# Altium integrated library Actel SX-A.IntLib: 434 symbols (part 23 of 34)
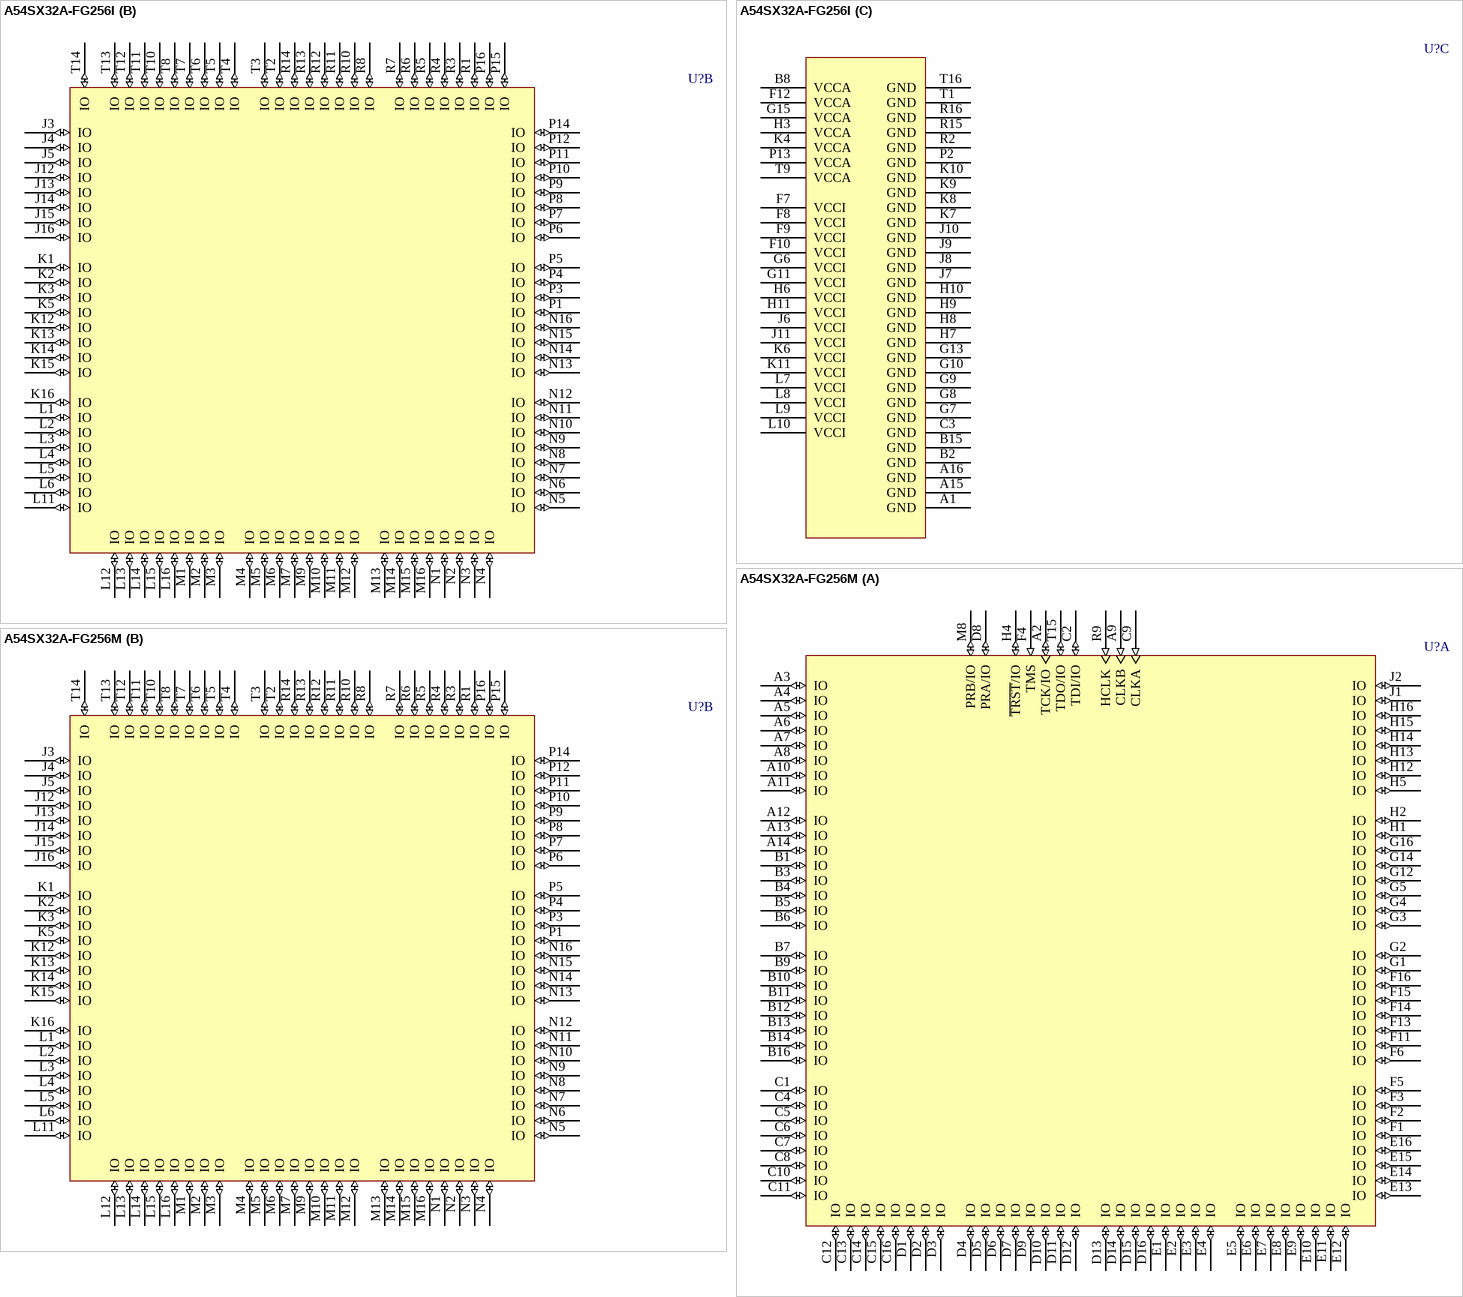
[diagram p343: symbols A54SX32A-FG256I to A54SX32A-FG256M]

## A54SX32A-FG256I
designator U?
A54SX32A FPGA, 203 User IOs, 256-Pin FBGA, Standard Speed Grade, Industrial Grade; DatasheetVersion: v5.3, Feb-2007; PackageVersion: rev39, Aug-2010; PackageReference: FBGA256; PackageDescription: 256-Ball Fine Pitch Plastic Ball Grid Array 1.00 mm Pitch (FG256); Code_JEDEC: MS-034-AAF-1; ComponentLink1Description: Manufacturer URL; ComponentLink1URL: http://www.actel.com/; ComponentLink2Description: SX-A Datasheet; ComponentLink2URL: http://www.actel.com/documents/SXA_DS.pdf; ComponentLink3Description: Package Mechanical Drawings; ComponentLink3URL: http://www.actel.com/documents/PckgMechDrwngs.pdf; ComponentLink4Description: SX-A Documents; ComponentLink4URL: http://www.actel.com/products/proasicplus/docs.aspx
footprint FBGA256 (BGA, 256-Leads, Body 17x17mm, Pitch 1mm)
part A pins: A2 TCK/IO (io), A3 IO (io), A4 IO (io), A5 IO (io), A6 IO (io), A7 IO (io), A8 IO (io), A9 CLKB (in), A10 IO (io), A11 IO (io), A12 IO (io), A13 IO (io), A14 IO (io), B1 IO (io), B3 IO (io), B4 IO (io), B5 IO (io), B6 IO (io), B7 IO (io), B9 IO (io), B10 IO (io), B11 IO (io), B12 IO (io), B13 IO (io), B14 IO (io), B16 IO (io), C1 IO (io), C2 TDI/IO (io), C4 IO (io), C5 IO (io), C6 IO (io), C7 IO (io), C8 IO (io), C9 CLKA (in), C10 IO (io), C11 IO (io), C12 IO (io), C13 IO (io), C14 IO (io), C15 IO (io), C16 IO (io), D1 IO (io), D2 IO (io), D3 IO (io), D4 IO (io), D5 IO (io), D6 IO (io), D7 IO (io), D8 PRA/IO (io), D9 IO (io), D10 IO (io), D11 IO (io), D12 IO (io), D13 IO (io), D14 IO (io), D15 IO (io), D16 IO (io), E1 IO (io), E2 IO (io), E3 IO (io), E4 IO (io), E5 IO (io), E6 IO (io), E7 IO (io), E8 IO (io), E9 IO (io), E10 IO (io), E11 IO (io), E12 IO (io), E13 IO (io), E14 IO (io), E15 IO (io), E16 IO (io), F1 IO (io), F2 IO (io), F3 IO (io), F4 TMS (in), F5 IO (io), F6 IO (io), F11 IO (io), F13 IO (io), F14 IO (io), F15 IO (io), F16 IO (io), G1 IO (io), G2 IO (io), G3 IO (io), G4 IO (io), G5 IO (io), G12 IO (io), G14 IO (io), G16 IO (io), H1 IO (io), H2 IO (io), H4 ~{TRST}/IO (io), H5 IO (io), H12 IO (io), H13 IO (io), H14 IO (io), H15 IO (io), H16 IO (io), J1 IO (io), J2 IO (io), M8 PRB/IO (io), R9 HCLK (in), T15 TDO/IO (io)
part B pins: J3 IO (io), J4 IO (io), J5 IO (io), J12 IO (io), J13 IO (io), J14 IO (io), J15 IO (io), J16 IO (io), K1 IO (io), K2 IO (io), K3 IO (io), K5 IO (io), K12 IO (io), K13 IO (io), K14 IO (io), K15 IO (io), K16 IO (io), L1 IO (io), L2 IO (io), L3 IO (io), L4 IO (io), L5 IO (io), L6 IO (io), L11 IO (io), L12 IO (io), L13 IO (io), L14 IO (io), L15 IO (io), L16 IO (io), M1 IO (io), M2 IO (io), M3 IO (io), M4 IO (io), M5 IO (io), M6 IO (io), M7 IO (io), M9 IO (io), M10 IO (io), M11 IO (io), M12 IO (io), M13 IO (io), M14 IO (io), M15 IO (io), M16 IO (io), N1 IO (io), N2 IO (io), N3 IO (io), N4 IO (io), N5 IO (io), N6 IO (io), N7 IO (io), N8 IO (io), N9 IO (io), N10 IO (io), N11 IO (io), N12 IO (io), N13 IO (io), N14 IO (io), N15 IO (io), N16 IO (io), P1 IO (io), P3 IO (io), P4 IO (io), P5 IO (io), P6 IO (io), P7 IO (io), P8 IO (io), P9 IO (io), P10 IO (io), P11 IO (io), P12 IO (io), P14 IO (io), P15 IO (io), P16 IO (io), R1 IO (io), R3 IO (io), R4 IO (io), R5 IO (io), R6 IO (io), R7 IO (io), R8 IO (io), R10 IO (io), R11 IO (io), R12 IO (io), R13 IO (io), R14 IO (io), T2 IO (io), T3 IO (io), T4 IO (io), T5 IO (io), T6 IO (io), T7 IO (io), T8 IO (io), T10 IO (io), T11 IO (io), T12 IO (io), T13 IO (io), T14 IO (io)
part C pins: A1 GND (power), A15 GND (power), A16 GND (power), B2 GND (power), B8 VCCA (power), B15 GND (power), C3 GND (power), F7 VCCI (power), F8 VCCI (power), F9 VCCI (power), F10 VCCI (power), F12 VCCA (power), G6 VCCI (power), G7 GND (power), G8 GND (power), G9 GND (power), G10 GND (power), G11 VCCI (power), G13 GND (power), G15 VCCA (power), H3 VCCA (power), H6 VCCI (power), H7 GND (power), H8 GND (power), H9 GND (power), H10 GND (power), H11 VCCI (power), J6 VCCI (power), J7 GND (power), J8 GND (power), J9 GND (power), J10 GND (power), J11 VCCI (power), K4 VCCA (power), K6 VCCI (power), K7 GND (power), K8 GND (power), K9 GND (power), K10 GND (power), K11 VCCI (power), L7 VCCI (power), L8 VCCI (power), L9 VCCI (power), L10 VCCI (power), P2 GND (power), P13 VCCA (power), R2 GND (power), R15 GND (power), R16 GND (power), T1 GND (power), T9 VCCA (power), T16 GND (power)

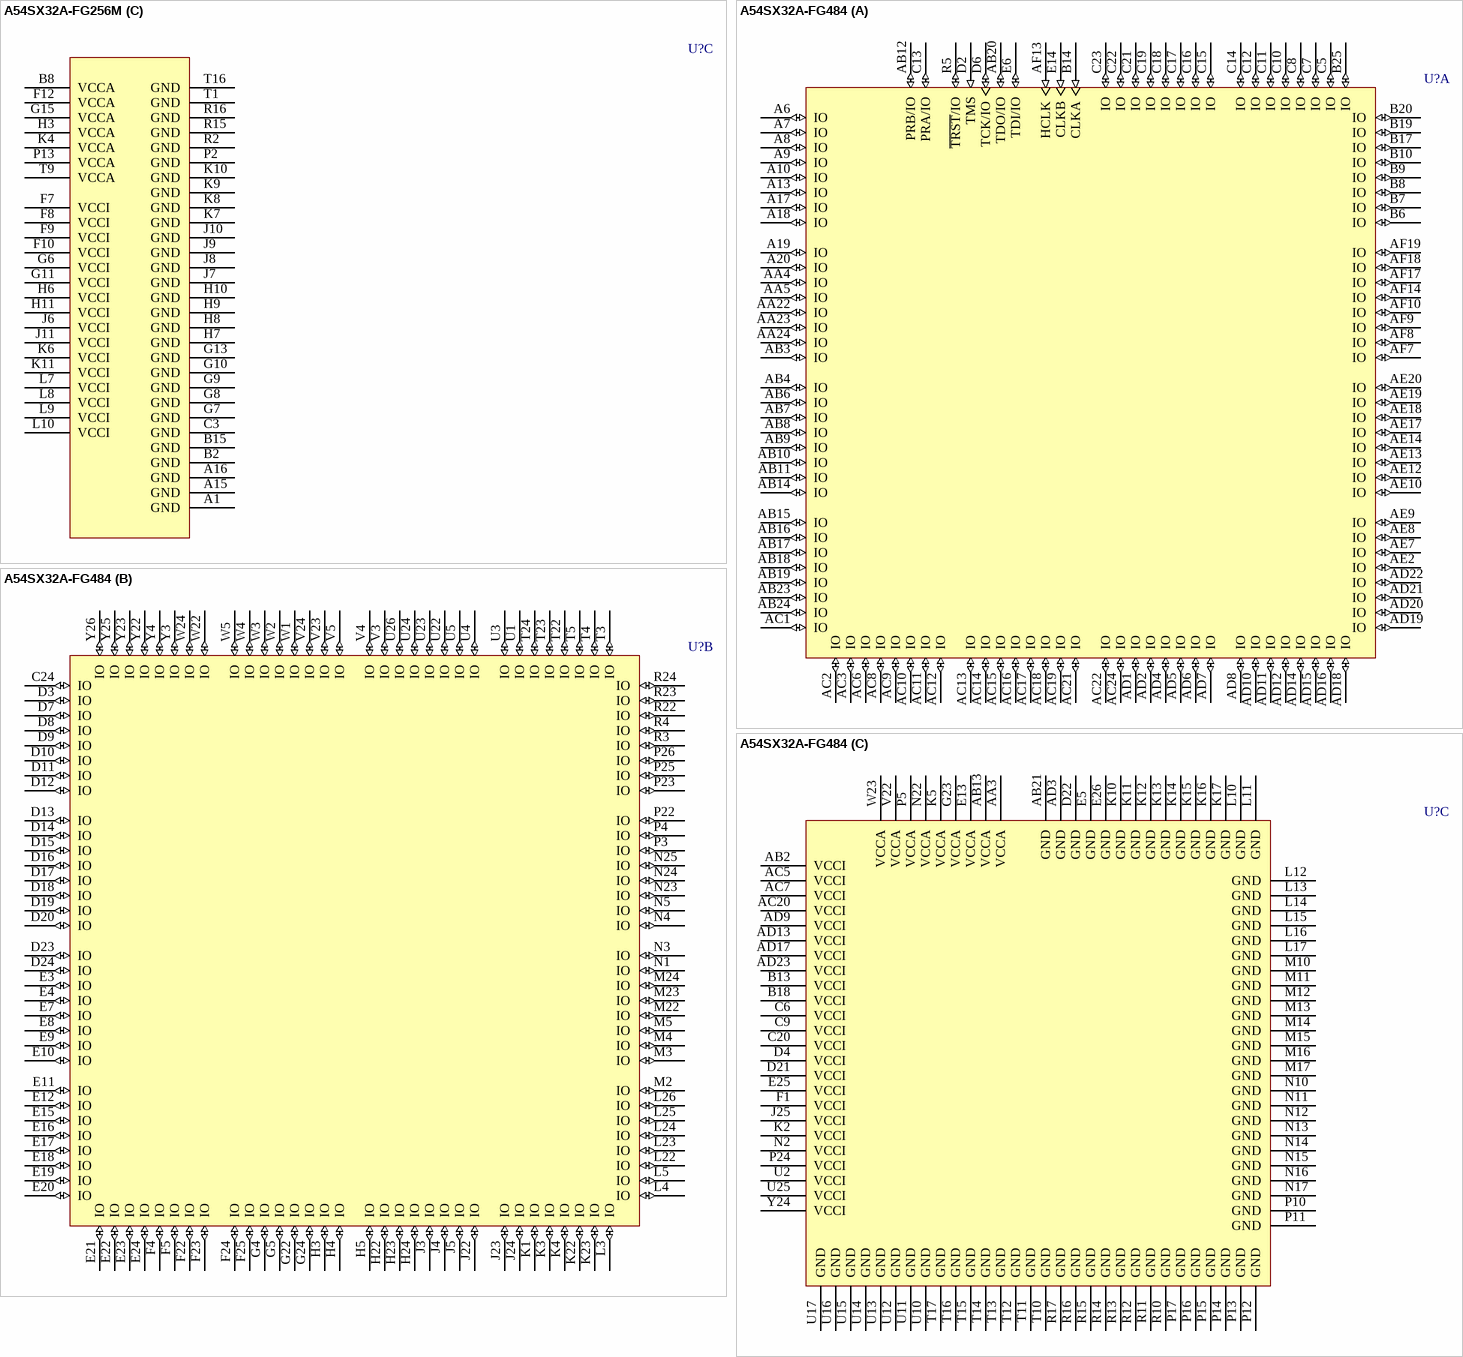
[diagram p215: symbols A54SX32A-FG256M to A54SX32A-FG484]

## A54SX32A-FG256M
designator U?
A54SX32A FPGA, 203 User IOs, 256-Pin FBGA, Standard Speed Grade, Military Grade; DatasheetVersion: v5.3, Feb-2007; PackageVersion: rev39, Aug-2010; PackageReference: FBGA256; PackageDescription: 256-Ball Fine Pitch Plastic Ball Grid Array 1.00 mm Pitch (FG256); Code_JEDEC: MS-034-AAF-1; ComponentLink1Description: Manufacturer URL; ComponentLink1URL: http://www.actel.com/; ComponentLink2Description: SX-A Datasheet; ComponentLink2URL: http://www.actel.com/documents/SXA_DS.pdf; ComponentLink3Description: Package Mechanical Drawings; ComponentLink3URL: http://www.actel.com/documents/PckgMechDrwngs.pdf; ComponentLink4Description: SX-A Documents; ComponentLink4URL: http://www.actel.com/products/proasicplus/docs.aspx
footprint FBGA256 (BGA, 256-Leads, Body 17x17mm, Pitch 1mm)
part A pins: A2 TCK/IO (io), A3 IO (io), A4 IO (io), A5 IO (io), A6 IO (io), A7 IO (io), A8 IO (io), A9 CLKB (in), A10 IO (io), A11 IO (io), A12 IO (io), A13 IO (io), A14 IO (io), B1 IO (io), B3 IO (io), B4 IO (io), B5 IO (io), B6 IO (io), B7 IO (io), B9 IO (io), B10 IO (io), B11 IO (io), B12 IO (io), B13 IO (io), B14 IO (io), B16 IO (io), C1 IO (io), C2 TDI/IO (io), C4 IO (io), C5 IO (io), C6 IO (io), C7 IO (io), C8 IO (io), C9 CLKA (in), C10 IO (io), C11 IO (io), C12 IO (io), C13 IO (io), C14 IO (io), C15 IO (io), C16 IO (io), D1 IO (io), D2 IO (io), D3 IO (io), D4 IO (io), D5 IO (io), D6 IO (io), D7 IO (io), D8 PRA/IO (io), D9 IO (io), D10 IO (io), D11 IO (io), D12 IO (io), D13 IO (io), D14 IO (io), D15 IO (io), D16 IO (io), E1 IO (io), E2 IO (io), E3 IO (io), E4 IO (io), E5 IO (io), E6 IO (io), E7 IO (io), E8 IO (io), E9 IO (io), E10 IO (io), E11 IO (io), E12 IO (io), E13 IO (io), E14 IO (io), E15 IO (io), E16 IO (io), F1 IO (io), F2 IO (io), F3 IO (io), F4 TMS (in), F5 IO (io), F6 IO (io), F11 IO (io), F13 IO (io), F14 IO (io), F15 IO (io), F16 IO (io), G1 IO (io), G2 IO (io), G3 IO (io), G4 IO (io), G5 IO (io), G12 IO (io), G14 IO (io), G16 IO (io), H1 IO (io), H2 IO (io), H4 ~{TRST}/IO (io), H5 IO (io), H12 IO (io), H13 IO (io), H14 IO (io), H15 IO (io), H16 IO (io), J1 IO (io), J2 IO (io), M8 PRB/IO (io), R9 HCLK (in), T15 TDO/IO (io)
part B pins: J3 IO (io), J4 IO (io), J5 IO (io), J12 IO (io), J13 IO (io), J14 IO (io), J15 IO (io), J16 IO (io), K1 IO (io), K2 IO (io), K3 IO (io), K5 IO (io), K12 IO (io), K13 IO (io), K14 IO (io), K15 IO (io), K16 IO (io), L1 IO (io), L2 IO (io), L3 IO (io), L4 IO (io), L5 IO (io), L6 IO (io), L11 IO (io), L12 IO (io), L13 IO (io), L14 IO (io), L15 IO (io), L16 IO (io), M1 IO (io), M2 IO (io), M3 IO (io), M4 IO (io), M5 IO (io), M6 IO (io), M7 IO (io), M9 IO (io), M10 IO (io), M11 IO (io), M12 IO (io), M13 IO (io), M14 IO (io), M15 IO (io), M16 IO (io), N1 IO (io), N2 IO (io), N3 IO (io), N4 IO (io), N5 IO (io), N6 IO (io), N7 IO (io), N8 IO (io), N9 IO (io), N10 IO (io), N11 IO (io), N12 IO (io), N13 IO (io), N14 IO (io), N15 IO (io), N16 IO (io), P1 IO (io), P3 IO (io), P4 IO (io), P5 IO (io), P6 IO (io), P7 IO (io), P8 IO (io), P9 IO (io), P10 IO (io), P11 IO (io), P12 IO (io), P14 IO (io), P15 IO (io), P16 IO (io), R1 IO (io), R3 IO (io), R4 IO (io), R5 IO (io), R6 IO (io), R7 IO (io), R8 IO (io), R10 IO (io), R11 IO (io), R12 IO (io), R13 IO (io), R14 IO (io), T2 IO (io), T3 IO (io), T4 IO (io), T5 IO (io), T6 IO (io), T7 IO (io), T8 IO (io), T10 IO (io), T11 IO (io), T12 IO (io), T13 IO (io), T14 IO (io)
part C pins: A1 GND (power), A15 GND (power), A16 GND (power), B2 GND (power), B8 VCCA (power), B15 GND (power), C3 GND (power), F7 VCCI (power), F8 VCCI (power), F9 VCCI (power), F10 VCCI (power), F12 VCCA (power), G6 VCCI (power), G7 GND (power), G8 GND (power), G9 GND (power), G10 GND (power), G11 VCCI (power), G13 GND (power), G15 VCCA (power), H3 VCCA (power), H6 VCCI (power), H7 GND (power), H8 GND (power), H9 GND (power), H10 GND (power), H11 VCCI (power), J6 VCCI (power), J7 GND (power), J8 GND (power), J9 GND (power), J10 GND (power), J11 VCCI (power), K4 VCCA (power), K6 VCCI (power), K7 GND (power), K8 GND (power), K9 GND (power), K10 GND (power), K11 VCCI (power), L7 VCCI (power), L8 VCCI (power), L9 VCCI (power), L10 VCCI (power), P2 GND (power), P13 VCCA (power), R2 GND (power), R15 GND (power), R16 GND (power), T1 GND (power), T9 VCCA (power), T16 GND (power)

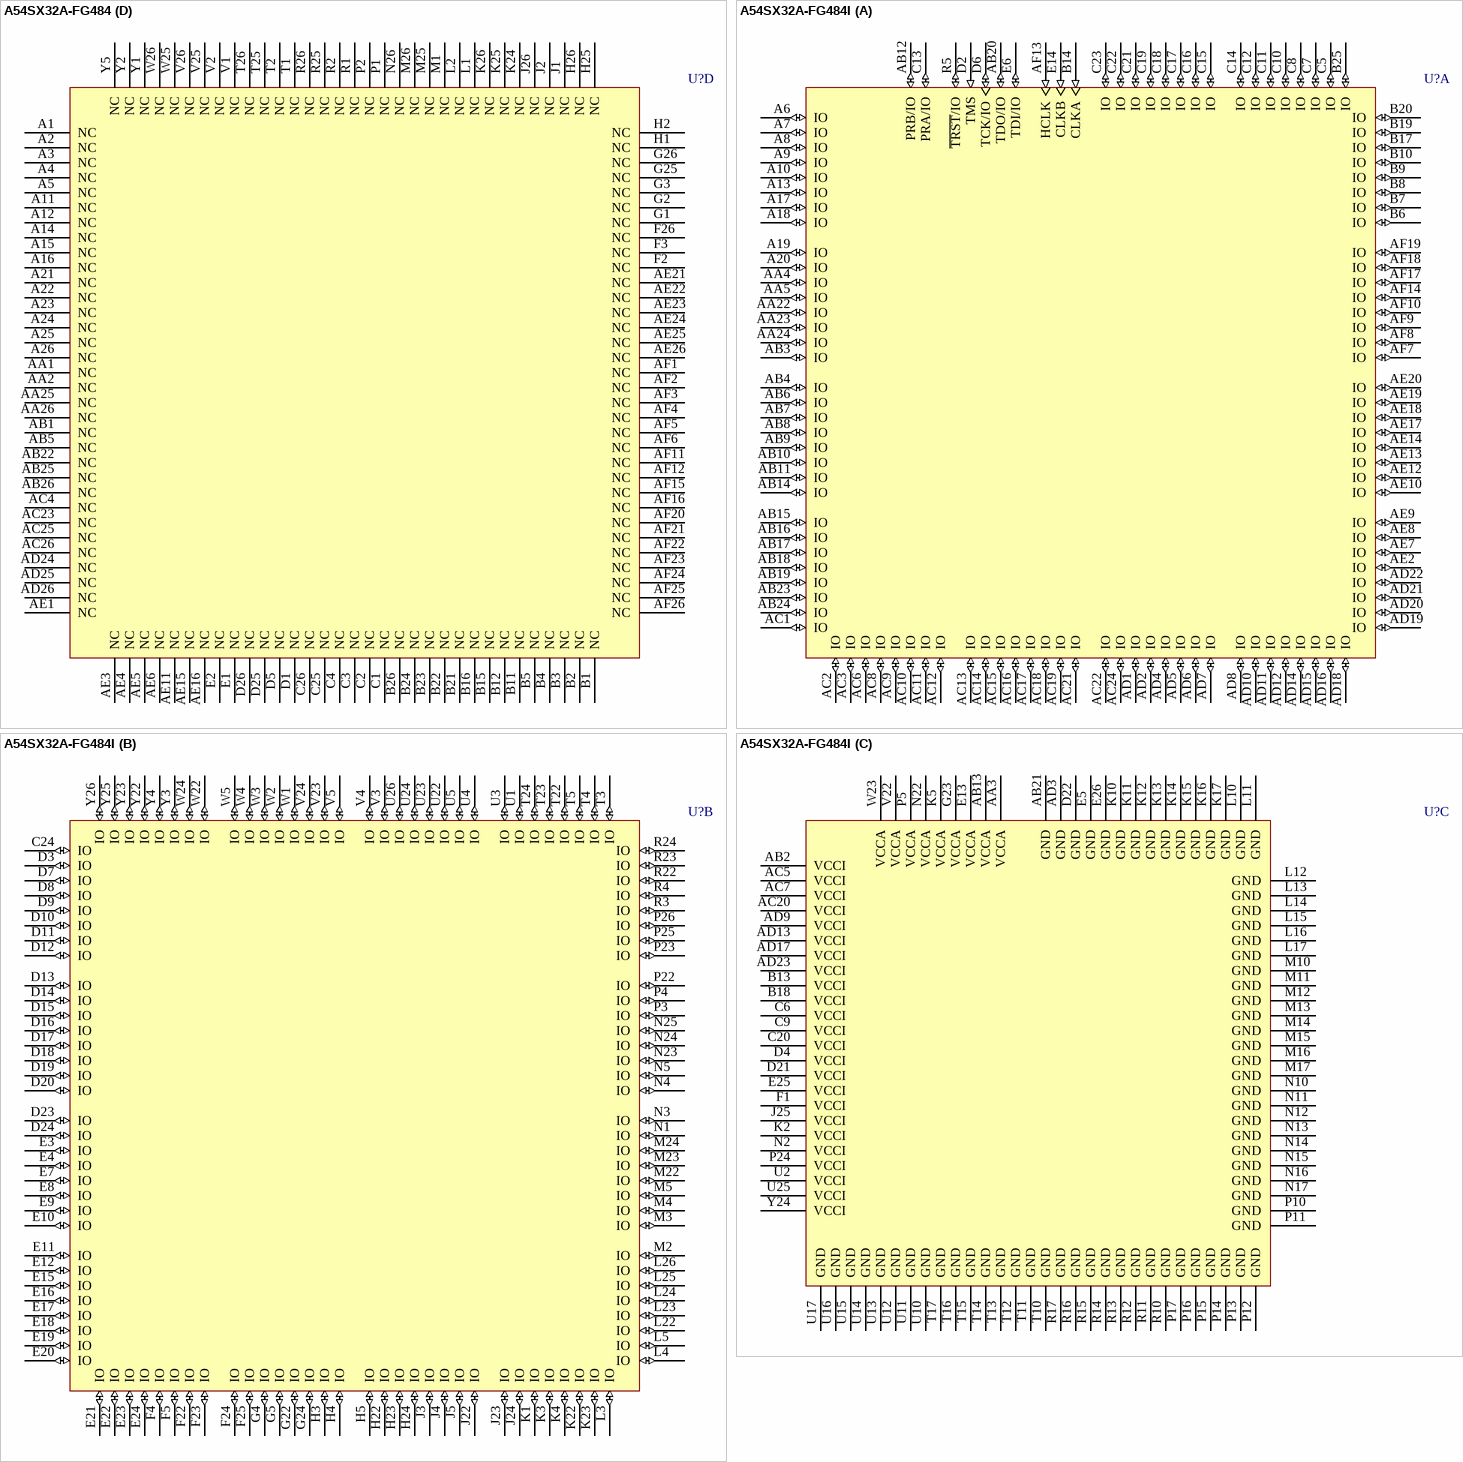
[diagram p216: symbols A54SX32A-FG484 to A54SX32A-FG484I]

## A54SX32A-FG484
designator U?
A54SX32A FPGA, 249 User IOs, 484-Pin FBGA, Standard Speed Grade, Commercial Grade; DatasheetVersion: v5.3, Feb-2007; PackageVersion: rev39, Aug-2010; PackageReference: FG484TE; PackageDescription: 484-Ball Fine Pitch Plastic Ball Grid Array (FG484) - Thermally Enhanced; Code_JEDEC: MS-034-AAL-1; ComponentLink1Description: Manufacturer URL; ComponentLink1URL: http://www.actel.com/; ComponentLink2Description: SX-A Datasheet; ComponentLink2URL: http://www.actel.com/documents/SXA_DS.pdf; ComponentLink3Description: Package Mechanical Drawings; ComponentLink3URL: http://www.actel.com/documents/PckgMechDrwngs.pdf; ComponentLink4Description: SX-A Documents; ComponentLink4URL: http://www.actel.com/products/proasicplus/docs.aspx
footprint FG484TE (BGA, 484-Leads, Body 27x27mm, Pitch 1mm)
part A pins: A6 IO (io), A7 IO (io), A8 IO (io), A9 IO (io), A10 IO (io), A13 IO (io), A17 IO (io), A18 IO (io), A19 IO (io), A20 IO (io), AA4 IO (io), AA5 IO (io), AA22 IO (io), AA23 IO (io), AA24 IO (io), AB3 IO (io), AB4 IO (io), AB6 IO (io), AB7 IO (io), AB8 IO (io), AB9 IO (io), AB10 IO (io), AB11 IO (io), AB12 PRB/IO (io), AB14 IO (io), AB15 IO (io), AB16 IO (io), AB17 IO (io), AB18 IO (io), AB19 IO (io), AB20 TDO/IO (io), AB23 IO (io), AB24 IO (io), AC1 IO (io), AC2 IO (io), AC3 IO (io), AC6 IO (io), AC8 IO (io), AC9 IO (io), AC10 IO (io), AC11 IO (io), AC12 IO (io), AC13 IO (io), AC14 IO (io), AC15 IO (io), AC16 IO (io), AC17 IO (io), AC18 IO (io), AC19 IO (io), AC21 IO (io), AC22 IO (io), AC24 IO (io), AD1 IO (io), AD2 IO (io), AD4 IO (io), AD5 IO (io), AD6 IO (io), AD7 IO (io), AD8 IO (io), AD10 IO (io), AD11 IO (io), AD12 IO (io), AD14 IO (io), AD15 IO (io), AD16 IO (io), AD18 IO (io), AD19 IO (io), AD20 IO (io), AD21 IO (io), AD22 IO (io), AE2 IO (io), AE7 IO (io), AE8 IO (io), AE9 IO (io), AE10 IO (io), AE12 IO (io), AE13 IO (io), AE14 IO (io), AE17 IO (io), AE18 IO (io), AE19 IO (io), AE20 IO (io), AF7 IO (io), AF8 IO (io), AF9 IO (io), AF10 IO (io), AF13 HCLK (in), AF14 IO (io), AF17 IO (io), AF18 IO (io), AF19 IO (io), B6 IO (io), B7 IO (io), B8 IO (io), B9 IO (io), B10 IO (io), B14 CLKA (in), B17 IO (io), B19 IO (io), B20 IO (io), B25 IO (io), C5 IO (io), C7 IO (io), C8 IO (io), C10 IO (io), C11 IO (io), C12 IO (io), C13 PRA/IO (io), C14 IO (io), C15 IO (io), C16 IO (io), C17 IO (io), C18 IO (io), C19 IO (io), C21 IO (io), C22 IO (io), C23 IO (io), D2 TMS (in), D6 TCK/IO (io), E6 TDI/IO (io), E14 CLKB (in), R5 ~{TRST}/IO (io)
part B pins: C24 IO (io), D3 IO (io), D7 IO (io), D8 IO (io), D9 IO (io), D10 IO (io), D11 IO (io), D12 IO (io), D13 IO (io), D14 IO (io), D15 IO (io), D16 IO (io), D17 IO (io), D18 IO (io), D19 IO (io), D20 IO (io), D23 IO (io), D24 IO (io), E3 IO (io), E4 IO (io), E7 IO (io), E8 IO (io), E9 IO (io), E10 IO (io), E11 IO (io), E12 IO (io), E15 IO (io), E16 IO (io), E17 IO (io), E18 IO (io), E19 IO (io), E20 IO (io), E21 IO (io), E22 IO (io), E23 IO (io), E24 IO (io), F4 IO (io), F5 IO (io), F22 IO (io), F23 IO (io), F24 IO (io), F25 IO (io), G4 IO (io), G5 IO (io), G22 IO (io), G24 IO (io), H3 IO (io), H4 IO (io), H5 IO (io), H22 IO (io), H23 IO (io), H24 IO (io), J3 IO (io), J4 IO (io), J5 IO (io), J22 IO (io), J23 IO (io), J24 IO (io), K1 IO (io), K3 IO (io), K4 IO (io), K22 IO (io), K23 IO (io), L3 IO (io), L4 IO (io), L5 IO (io), L22 IO (io), L23 IO (io), L24 IO (io), L25 IO (io), L26 IO (io), M2 IO (io), M3 IO (io), M4 IO (io), M5 IO (io), M22 IO (io), M23 IO (io), M24 IO (io), N1 IO (io), N3 IO (io), N4 IO (io), N5 IO (io), N23 IO (io), N24 IO (io), N25 IO (io), P3 IO (io), P4 IO (io), P22 IO (io), P23 IO (io), P25 IO (io), P26 IO (io), R3 IO (io), R4 IO (io), R22 IO (io), R23 IO (io), R24 IO (io), T3 IO (io), T4 IO (io), T5 IO (io), T22 IO (io), T23 IO (io), T24 IO (io), U1 IO (io), U3 IO (io), U4 IO (io), U5 IO (io), U22 IO (io), U23 IO (io), U24 IO (io), U26 IO (io), V3 IO (io), V4 IO (io), V5 IO (io), V23 IO (io), V24 IO (io), W1 IO (io), W2 IO (io), W3 IO (io), W4 IO (io), W5 IO (io), W22 IO (io), W24 IO (io), Y3 IO (io), Y4 IO (io), Y22 IO (io), Y23 IO (io), Y25 IO (io), Y26 IO (io)
part C pins: AA3 VCCA (power), AB2 VCCI (power), AB13 VCCA (power), AB21 GND (power), AC5 VCCI (power), AC7 VCCI (power), AC20 VCCI (power), AD3 GND (power), AD9 VCCI (power), AD13 VCCI (power), AD17 VCCI (power), AD23 VCCI (power), B13 VCCI (power), B18 VCCI (power), C6 VCCI (power), C9 VCCI (power), C20 VCCI (power), D4 VCCI (power), D21 VCCI (power), D22 GND (power), E5 GND (power), E13 VCCA (power), E25 VCCI (power), E26 GND (power), F1 VCCI (power), G23 VCCA (power), J25 VCCI (power), K2 VCCI (power), K5 VCCA (power), K10 GND (power), K11 GND (power), K12 GND (power), K13 GND (power), K14 GND (power), K15 GND (power), K16 GND (power), K17 GND (power), L10 GND (power), L11 GND (power), L12 GND (power), L13 GND (power), L14 GND (power), L15 GND (power), L16 GND (power), L17 GND (power), M10 GND (power), M11 GND (power), M12 GND (power), M13 GND (power), M14 GND (power), M15 GND (power), M16 GND (power), M17 GND (power), N2 VCCI (power), N10 GND (power), N11 GND (power), N12 GND (power), N13 GND (power), N14 GND (power), N15 GND (power), N16 GND (power), N17 GND (power), N22 VCCA (power), P5 VCCA (power), P10 GND (power), P11 GND (power), P12 GND (power), P13 GND (power), P14 GND (power), P15 GND (power), P16 GND (power), P17 GND (power), P24 VCCI (power), R10 GND (power), R11 GND (power), R12 GND (power), R13 GND (power), R14 GND (power), R15 GND (power), R16 GND (power), R17 GND (power), T10 GND (power), T11 GND (power), T12 GND (power), T13 GND (power), T14 GND (power), T15 GND (power), T16 GND (power), T17 GND (power), U2 VCCI (power), U10 GND (power), U11 GND (power), U12 GND (power), U13 GND (power), U14 GND (power), U15 GND (power), U16 GND (power), U17 GND (power), U25 VCCI (power), V22 VCCA (power), W23 VCCA (power), Y24 VCCI (power)
part D pins: A1 NC, A2 NC, A3 NC, A4 NC, A5 NC, A11 NC, A12 NC, A14 NC, A15 NC, A16 NC, A21 NC, A22 NC, A23 NC, A24 NC, A25 NC, A26 NC, AA1 NC, AA2 NC, AA25 NC, AA26 NC, AB1 NC, AB5 NC, AB22 NC, AB25 NC, AB26 NC, AC4 NC, AC23 NC, AC25 NC, AC26 NC, AD24 NC, AD25 NC, AD26 NC, AE1 NC, AE3 NC, AE4 NC, AE5 NC, AE6 NC, AE11 NC, AE15 NC, AE16 NC, AE21 NC, AE22 NC, AE23 NC, AE24 NC, AE25 NC, AE26 NC, AF1 NC, AF2 NC, AF3 NC, AF4 NC, AF5 NC, AF6 NC, AF11 NC, AF12 NC, AF15 NC, AF16 NC, AF20 NC, AF21 NC, AF22 NC, AF23 NC, AF24 NC, AF25 NC, AF26 NC, B1 NC, B2 NC, B3 NC, B4 NC, B5 NC, B11 NC, B12 NC, B15 NC, B16 NC, B21 NC, B22 NC, B23 NC, B24 NC, B26 NC, C1 NC, C2 NC, C3 NC, C4 NC, C25 NC, C26 NC, D1 NC, D5 NC, D25 NC, D26 NC, E1 NC, E2 NC, F2 NC, F3 NC, F26 NC, G1 NC, G2 NC, G3 NC, G25 NC, G26 NC, H1 NC, H2 NC, H25 NC, H26 NC, J1 NC, J2 NC, J26 NC, K24 NC, K25 NC, K26 NC, L1 NC, L2 NC, M1 NC, M25 NC, M26 NC, N26 NC, P1 NC, P2 NC, R1 NC, R2 NC, R25 NC, R26 NC, T1 NC, T2 NC, T25 NC, T26 NC, V1 NC, V2 NC, V25 NC, V26 NC, W25 NC, W26 NC, Y1 NC, Y2 NC, Y5 NC

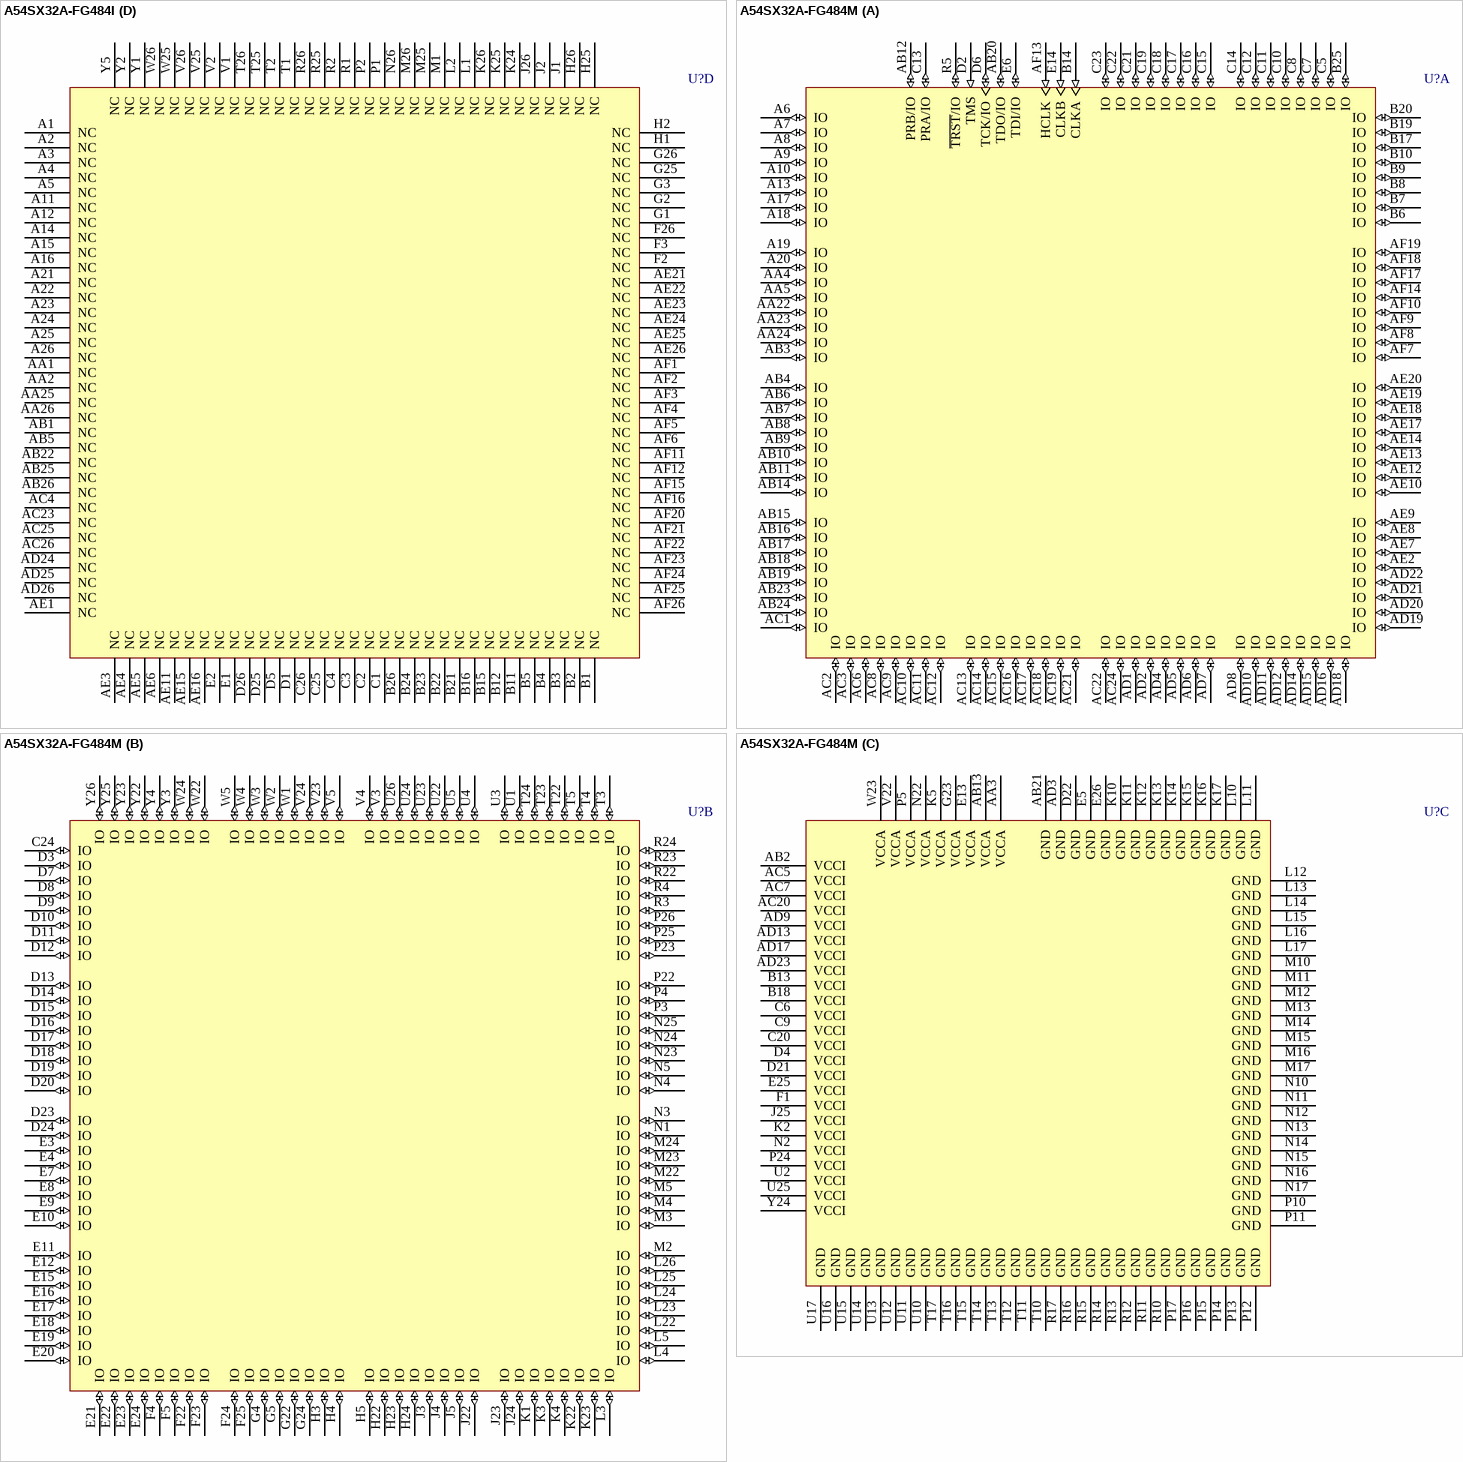
[diagram p217: symbols A54SX32A-FG484I to A54SX32A-FG484M]

## A54SX32A-FG484I
designator U?
A54SX32A FPGA, 249 User IOs, 484-Pin FBGA, Standard Speed Grade, Industrial Grade; DatasheetVersion: v5.3, Feb-2007; PackageVersion: rev39, Aug-2010; PackageReference: FG484TE; PackageDescription: 484-Ball Fine Pitch Plastic Ball Grid Array (FG484) - Thermally Enhanced; Code_JEDEC: MS-034-AAL-1; ComponentLink1Description: Manufacturer URL; ComponentLink1URL: http://www.actel.com/; ComponentLink2Description: SX-A Datasheet; ComponentLink2URL: http://www.actel.com/documents/SXA_DS.pdf; ComponentLink3Description: Package Mechanical Drawings; ComponentLink3URL: http://www.actel.com/documents/PckgMechDrwngs.pdf; ComponentLink4Description: SX-A Documents; ComponentLink4URL: http://www.actel.com/products/proasicplus/docs.aspx
footprint FG484TE (BGA, 484-Leads, Body 27x27mm, Pitch 1mm)
part A pins: A6 IO (io), A7 IO (io), A8 IO (io), A9 IO (io), A10 IO (io), A13 IO (io), A17 IO (io), A18 IO (io), A19 IO (io), A20 IO (io), AA4 IO (io), AA5 IO (io), AA22 IO (io), AA23 IO (io), AA24 IO (io), AB3 IO (io), AB4 IO (io), AB6 IO (io), AB7 IO (io), AB8 IO (io), AB9 IO (io), AB10 IO (io), AB11 IO (io), AB12 PRB/IO (io), AB14 IO (io), AB15 IO (io), AB16 IO (io), AB17 IO (io), AB18 IO (io), AB19 IO (io), AB20 TDO/IO (io), AB23 IO (io), AB24 IO (io), AC1 IO (io), AC2 IO (io), AC3 IO (io), AC6 IO (io), AC8 IO (io), AC9 IO (io), AC10 IO (io), AC11 IO (io), AC12 IO (io), AC13 IO (io), AC14 IO (io), AC15 IO (io), AC16 IO (io), AC17 IO (io), AC18 IO (io), AC19 IO (io), AC21 IO (io), AC22 IO (io), AC24 IO (io), AD1 IO (io), AD2 IO (io), AD4 IO (io), AD5 IO (io), AD6 IO (io), AD7 IO (io), AD8 IO (io), AD10 IO (io), AD11 IO (io), AD12 IO (io), AD14 IO (io), AD15 IO (io), AD16 IO (io), AD18 IO (io), AD19 IO (io), AD20 IO (io), AD21 IO (io), AD22 IO (io), AE2 IO (io), AE7 IO (io), AE8 IO (io), AE9 IO (io), AE10 IO (io), AE12 IO (io), AE13 IO (io), AE14 IO (io), AE17 IO (io), AE18 IO (io), AE19 IO (io), AE20 IO (io), AF7 IO (io), AF8 IO (io), AF9 IO (io), AF10 IO (io), AF13 HCLK (in), AF14 IO (io), AF17 IO (io), AF18 IO (io), AF19 IO (io), B6 IO (io), B7 IO (io), B8 IO (io), B9 IO (io), B10 IO (io), B14 CLKA (in), B17 IO (io), B19 IO (io), B20 IO (io), B25 IO (io), C5 IO (io), C7 IO (io), C8 IO (io), C10 IO (io), C11 IO (io), C12 IO (io), C13 PRA/IO (io), C14 IO (io), C15 IO (io), C16 IO (io), C17 IO (io), C18 IO (io), C19 IO (io), C21 IO (io), C22 IO (io), C23 IO (io), D2 TMS (in), D6 TCK/IO (io), E6 TDI/IO (io), E14 CLKB (in), R5 ~{TRST}/IO (io)
part B pins: C24 IO (io), D3 IO (io), D7 IO (io), D8 IO (io), D9 IO (io), D10 IO (io), D11 IO (io), D12 IO (io), D13 IO (io), D14 IO (io), D15 IO (io), D16 IO (io), D17 IO (io), D18 IO (io), D19 IO (io), D20 IO (io), D23 IO (io), D24 IO (io), E3 IO (io), E4 IO (io), E7 IO (io), E8 IO (io), E9 IO (io), E10 IO (io), E11 IO (io), E12 IO (io), E15 IO (io), E16 IO (io), E17 IO (io), E18 IO (io), E19 IO (io), E20 IO (io), E21 IO (io), E22 IO (io), E23 IO (io), E24 IO (io), F4 IO (io), F5 IO (io), F22 IO (io), F23 IO (io), F24 IO (io), F25 IO (io), G4 IO (io), G5 IO (io), G22 IO (io), G24 IO (io), H3 IO (io), H4 IO (io), H5 IO (io), H22 IO (io), H23 IO (io), H24 IO (io), J3 IO (io), J4 IO (io), J5 IO (io), J22 IO (io), J23 IO (io), J24 IO (io), K1 IO (io), K3 IO (io), K4 IO (io), K22 IO (io), K23 IO (io), L3 IO (io), L4 IO (io), L5 IO (io), L22 IO (io), L23 IO (io), L24 IO (io), L25 IO (io), L26 IO (io), M2 IO (io), M3 IO (io), M4 IO (io), M5 IO (io), M22 IO (io), M23 IO (io), M24 IO (io), N1 IO (io), N3 IO (io), N4 IO (io), N5 IO (io), N23 IO (io), N24 IO (io), N25 IO (io), P3 IO (io), P4 IO (io), P22 IO (io), P23 IO (io), P25 IO (io), P26 IO (io), R3 IO (io), R4 IO (io), R22 IO (io), R23 IO (io), R24 IO (io), T3 IO (io), T4 IO (io), T5 IO (io), T22 IO (io), T23 IO (io), T24 IO (io), U1 IO (io), U3 IO (io), U4 IO (io), U5 IO (io), U22 IO (io), U23 IO (io), U24 IO (io), U26 IO (io), V3 IO (io), V4 IO (io), V5 IO (io), V23 IO (io), V24 IO (io), W1 IO (io), W2 IO (io), W3 IO (io), W4 IO (io), W5 IO (io), W22 IO (io), W24 IO (io), Y3 IO (io), Y4 IO (io), Y22 IO (io), Y23 IO (io), Y25 IO (io), Y26 IO (io)
part C pins: AA3 VCCA (power), AB2 VCCI (power), AB13 VCCA (power), AB21 GND (power), AC5 VCCI (power), AC7 VCCI (power), AC20 VCCI (power), AD3 GND (power), AD9 VCCI (power), AD13 VCCI (power), AD17 VCCI (power), AD23 VCCI (power), B13 VCCI (power), B18 VCCI (power), C6 VCCI (power), C9 VCCI (power), C20 VCCI (power), D4 VCCI (power), D21 VCCI (power), D22 GND (power), E5 GND (power), E13 VCCA (power), E25 VCCI (power), E26 GND (power), F1 VCCI (power), G23 VCCA (power), J25 VCCI (power), K2 VCCI (power), K5 VCCA (power), K10 GND (power), K11 GND (power), K12 GND (power), K13 GND (power), K14 GND (power), K15 GND (power), K16 GND (power), K17 GND (power), L10 GND (power), L11 GND (power), L12 GND (power), L13 GND (power), L14 GND (power), L15 GND (power), L16 GND (power), L17 GND (power), M10 GND (power), M11 GND (power), M12 GND (power), M13 GND (power), M14 GND (power), M15 GND (power), M16 GND (power), M17 GND (power), N2 VCCI (power), N10 GND (power), N11 GND (power), N12 GND (power), N13 GND (power), N14 GND (power), N15 GND (power), N16 GND (power), N17 GND (power), N22 VCCA (power), P5 VCCA (power), P10 GND (power), P11 GND (power), P12 GND (power), P13 GND (power), P14 GND (power), P15 GND (power), P16 GND (power), P17 GND (power), P24 VCCI (power), R10 GND (power), R11 GND (power), R12 GND (power), R13 GND (power), R14 GND (power), R15 GND (power), R16 GND (power), R17 GND (power), T10 GND (power), T11 GND (power), T12 GND (power), T13 GND (power), T14 GND (power), T15 GND (power), T16 GND (power), T17 GND (power), U2 VCCI (power), U10 GND (power), U11 GND (power), U12 GND (power), U13 GND (power), U14 GND (power), U15 GND (power), U16 GND (power), U17 GND (power), U25 VCCI (power), V22 VCCA (power), W23 VCCA (power), Y24 VCCI (power)
part D pins: A1 NC, A2 NC, A3 NC, A4 NC, A5 NC, A11 NC, A12 NC, A14 NC, A15 NC, A16 NC, A21 NC, A22 NC, A23 NC, A24 NC, A25 NC, A26 NC, AA1 NC, AA2 NC, AA25 NC, AA26 NC, AB1 NC, AB5 NC, AB22 NC, AB25 NC, AB26 NC, AC4 NC, AC23 NC, AC25 NC, AC26 NC, AD24 NC, AD25 NC, AD26 NC, AE1 NC, AE3 NC, AE4 NC, AE5 NC, AE6 NC, AE11 NC, AE15 NC, AE16 NC, AE21 NC, AE22 NC, AE23 NC, AE24 NC, AE25 NC, AE26 NC, AF1 NC, AF2 NC, AF3 NC, AF4 NC, AF5 NC, AF6 NC, AF11 NC, AF12 NC, AF15 NC, AF16 NC, AF20 NC, AF21 NC, AF22 NC, AF23 NC, AF24 NC, AF25 NC, AF26 NC, B1 NC, B2 NC, B3 NC, B4 NC, B5 NC, B11 NC, B12 NC, B15 NC, B16 NC, B21 NC, B22 NC, B23 NC, B24 NC, B26 NC, C1 NC, C2 NC, C3 NC, C4 NC, C25 NC, C26 NC, D1 NC, D5 NC, D25 NC, D26 NC, E1 NC, E2 NC, F2 NC, F3 NC, F26 NC, G1 NC, G2 NC, G3 NC, G25 NC, G26 NC, H1 NC, H2 NC, H25 NC, H26 NC, J1 NC, J2 NC, J26 NC, K24 NC, K25 NC, K26 NC, L1 NC, L2 NC, M1 NC, M25 NC, M26 NC, N26 NC, P1 NC, P2 NC, R1 NC, R2 NC, R25 NC, R26 NC, T1 NC, T2 NC, T25 NC, T26 NC, V1 NC, V2 NC, V25 NC, V26 NC, W25 NC, W26 NC, Y1 NC, Y2 NC, Y5 NC

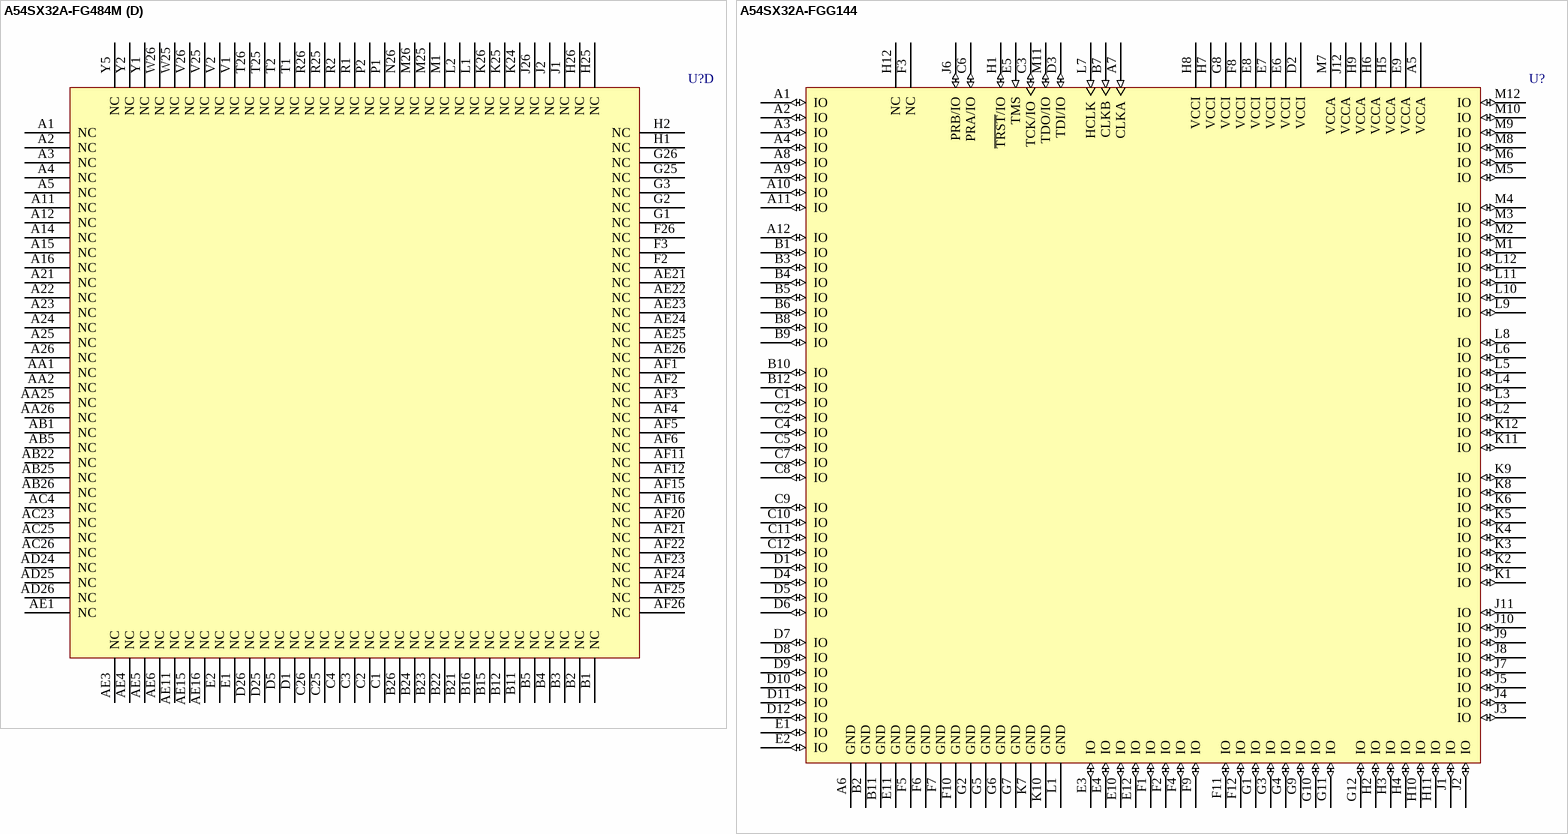
[diagram p218: symbols A54SX32A-FG484M to A54SX32A-FGG144]

## A54SX32A-FG484M
designator U?
A54SX32A FPGA, 249 User IOs, 484-Pin FBGA, Standard Speed Grade, Military Grade; DatasheetVersion: v5.3, Feb-2007; PackageVersion: rev39, Aug-2010; PackageReference: FG484TE; PackageDescription: 484-Ball Fine Pitch Plastic Ball Grid Array (FG484) - Thermally Enhanced; Code_JEDEC: MS-034-AAL-1; ComponentLink1Description: Manufacturer URL; ComponentLink1URL: http://www.actel.com/; ComponentLink2Description: SX-A Datasheet; ComponentLink2URL: http://www.actel.com/documents/SXA_DS.pdf; ComponentLink3Description: Package Mechanical Drawings; ComponentLink3URL: http://www.actel.com/documents/PckgMechDrwngs.pdf; ComponentLink4Description: SX-A Documents; ComponentLink4URL: http://www.actel.com/products/proasicplus/docs.aspx
footprint FG484TE (BGA, 484-Leads, Body 27x27mm, Pitch 1mm)
part A pins: A6 IO (io), A7 IO (io), A8 IO (io), A9 IO (io), A10 IO (io), A13 IO (io), A17 IO (io), A18 IO (io), A19 IO (io), A20 IO (io), AA4 IO (io), AA5 IO (io), AA22 IO (io), AA23 IO (io), AA24 IO (io), AB3 IO (io), AB4 IO (io), AB6 IO (io), AB7 IO (io), AB8 IO (io), AB9 IO (io), AB10 IO (io), AB11 IO (io), AB12 PRB/IO (io), AB14 IO (io), AB15 IO (io), AB16 IO (io), AB17 IO (io), AB18 IO (io), AB19 IO (io), AB20 TDO/IO (io), AB23 IO (io), AB24 IO (io), AC1 IO (io), AC2 IO (io), AC3 IO (io), AC6 IO (io), AC8 IO (io), AC9 IO (io), AC10 IO (io), AC11 IO (io), AC12 IO (io), AC13 IO (io), AC14 IO (io), AC15 IO (io), AC16 IO (io), AC17 IO (io), AC18 IO (io), AC19 IO (io), AC21 IO (io), AC22 IO (io), AC24 IO (io), AD1 IO (io), AD2 IO (io), AD4 IO (io), AD5 IO (io), AD6 IO (io), AD7 IO (io), AD8 IO (io), AD10 IO (io), AD11 IO (io), AD12 IO (io), AD14 IO (io), AD15 IO (io), AD16 IO (io), AD18 IO (io), AD19 IO (io), AD20 IO (io), AD21 IO (io), AD22 IO (io), AE2 IO (io), AE7 IO (io), AE8 IO (io), AE9 IO (io), AE10 IO (io), AE12 IO (io), AE13 IO (io), AE14 IO (io), AE17 IO (io), AE18 IO (io), AE19 IO (io), AE20 IO (io), AF7 IO (io), AF8 IO (io), AF9 IO (io), AF10 IO (io), AF13 HCLK (in), AF14 IO (io), AF17 IO (io), AF18 IO (io), AF19 IO (io), B6 IO (io), B7 IO (io), B8 IO (io), B9 IO (io), B10 IO (io), B14 CLKA (in), B17 IO (io), B19 IO (io), B20 IO (io), B25 IO (io), C5 IO (io), C7 IO (io), C8 IO (io), C10 IO (io), C11 IO (io), C12 IO (io), C13 PRA/IO (io), C14 IO (io), C15 IO (io), C16 IO (io), C17 IO (io), C18 IO (io), C19 IO (io), C21 IO (io), C22 IO (io), C23 IO (io), D2 TMS (in), D6 TCK/IO (io), E6 TDI/IO (io), E14 CLKB (in), R5 ~{TRST}/IO (io)
part B pins: C24 IO (io), D3 IO (io), D7 IO (io), D8 IO (io), D9 IO (io), D10 IO (io), D11 IO (io), D12 IO (io), D13 IO (io), D14 IO (io), D15 IO (io), D16 IO (io), D17 IO (io), D18 IO (io), D19 IO (io), D20 IO (io), D23 IO (io), D24 IO (io), E3 IO (io), E4 IO (io), E7 IO (io), E8 IO (io), E9 IO (io), E10 IO (io), E11 IO (io), E12 IO (io), E15 IO (io), E16 IO (io), E17 IO (io), E18 IO (io), E19 IO (io), E20 IO (io), E21 IO (io), E22 IO (io), E23 IO (io), E24 IO (io), F4 IO (io), F5 IO (io), F22 IO (io), F23 IO (io), F24 IO (io), F25 IO (io), G4 IO (io), G5 IO (io), G22 IO (io), G24 IO (io), H3 IO (io), H4 IO (io), H5 IO (io), H22 IO (io), H23 IO (io), H24 IO (io), J3 IO (io), J4 IO (io), J5 IO (io), J22 IO (io), J23 IO (io), J24 IO (io), K1 IO (io), K3 IO (io), K4 IO (io), K22 IO (io), K23 IO (io), L3 IO (io), L4 IO (io), L5 IO (io), L22 IO (io), L23 IO (io), L24 IO (io), L25 IO (io), L26 IO (io), M2 IO (io), M3 IO (io), M4 IO (io), M5 IO (io), M22 IO (io), M23 IO (io), M24 IO (io), N1 IO (io), N3 IO (io), N4 IO (io), N5 IO (io), N23 IO (io), N24 IO (io), N25 IO (io), P3 IO (io), P4 IO (io), P22 IO (io), P23 IO (io), P25 IO (io), P26 IO (io), R3 IO (io), R4 IO (io), R22 IO (io), R23 IO (io), R24 IO (io), T3 IO (io), T4 IO (io), T5 IO (io), T22 IO (io), T23 IO (io), T24 IO (io), U1 IO (io), U3 IO (io), U4 IO (io), U5 IO (io), U22 IO (io), U23 IO (io), U24 IO (io), U26 IO (io), V3 IO (io), V4 IO (io), V5 IO (io), V23 IO (io), V24 IO (io), W1 IO (io), W2 IO (io), W3 IO (io), W4 IO (io), W5 IO (io), W22 IO (io), W24 IO (io), Y3 IO (io), Y4 IO (io), Y22 IO (io), Y23 IO (io), Y25 IO (io), Y26 IO (io)
part C pins: AA3 VCCA (power), AB2 VCCI (power), AB13 VCCA (power), AB21 GND (power), AC5 VCCI (power), AC7 VCCI (power), AC20 VCCI (power), AD3 GND (power), AD9 VCCI (power), AD13 VCCI (power), AD17 VCCI (power), AD23 VCCI (power), B13 VCCI (power), B18 VCCI (power), C6 VCCI (power), C9 VCCI (power), C20 VCCI (power), D4 VCCI (power), D21 VCCI (power), D22 GND (power), E5 GND (power), E13 VCCA (power), E25 VCCI (power), E26 GND (power), F1 VCCI (power), G23 VCCA (power), J25 VCCI (power), K2 VCCI (power), K5 VCCA (power), K10 GND (power), K11 GND (power), K12 GND (power), K13 GND (power), K14 GND (power), K15 GND (power), K16 GND (power), K17 GND (power), L10 GND (power), L11 GND (power), L12 GND (power), L13 GND (power), L14 GND (power), L15 GND (power), L16 GND (power), L17 GND (power), M10 GND (power), M11 GND (power), M12 GND (power), M13 GND (power), M14 GND (power), M15 GND (power), M16 GND (power), M17 GND (power), N2 VCCI (power), N10 GND (power), N11 GND (power), N12 GND (power), N13 GND (power), N14 GND (power), N15 GND (power), N16 GND (power), N17 GND (power), N22 VCCA (power), P5 VCCA (power), P10 GND (power), P11 GND (power), P12 GND (power), P13 GND (power), P14 GND (power), P15 GND (power), P16 GND (power), P17 GND (power), P24 VCCI (power), R10 GND (power), R11 GND (power), R12 GND (power), R13 GND (power), R14 GND (power), R15 GND (power), R16 GND (power), R17 GND (power), T10 GND (power), T11 GND (power), T12 GND (power), T13 GND (power), T14 GND (power), T15 GND (power), T16 GND (power), T17 GND (power), U2 VCCI (power), U10 GND (power), U11 GND (power), U12 GND (power), U13 GND (power), U14 GND (power), U15 GND (power), U16 GND (power), U17 GND (power), U25 VCCI (power), V22 VCCA (power), W23 VCCA (power), Y24 VCCI (power)
part D pins: A1 NC, A2 NC, A3 NC, A4 NC, A5 NC, A11 NC, A12 NC, A14 NC, A15 NC, A16 NC, A21 NC, A22 NC, A23 NC, A24 NC, A25 NC, A26 NC, AA1 NC, AA2 NC, AA25 NC, AA26 NC, AB1 NC, AB5 NC, AB22 NC, AB25 NC, AB26 NC, AC4 NC, AC23 NC, AC25 NC, AC26 NC, AD24 NC, AD25 NC, AD26 NC, AE1 NC, AE3 NC, AE4 NC, AE5 NC, AE6 NC, AE11 NC, AE15 NC, AE16 NC, AE21 NC, AE22 NC, AE23 NC, AE24 NC, AE25 NC, AE26 NC, AF1 NC, AF2 NC, AF3 NC, AF4 NC, AF5 NC, AF6 NC, AF11 NC, AF12 NC, AF15 NC, AF16 NC, AF20 NC, AF21 NC, AF22 NC, AF23 NC, AF24 NC, AF25 NC, AF26 NC, B1 NC, B2 NC, B3 NC, B4 NC, B5 NC, B11 NC, B12 NC, B15 NC, B16 NC, B21 NC, B22 NC, B23 NC, B24 NC, B26 NC, C1 NC, C2 NC, C3 NC, C4 NC, C25 NC, C26 NC, D1 NC, D5 NC, D25 NC, D26 NC, E1 NC, E2 NC, F2 NC, F3 NC, F26 NC, G1 NC, G2 NC, G3 NC, G25 NC, G26 NC, H1 NC, H2 NC, H25 NC, H26 NC, J1 NC, J2 NC, J26 NC, K24 NC, K25 NC, K26 NC, L1 NC, L2 NC, M1 NC, M25 NC, M26 NC, N26 NC, P1 NC, P2 NC, R1 NC, R2 NC, R25 NC, R26 NC, T1 NC, T2 NC, T25 NC, T26 NC, V1 NC, V2 NC, V25 NC, V26 NC, W25 NC, W26 NC, Y1 NC, Y2 NC, Y5 NC

## A54SX32A-FGG144
designator U?
A54SX32A FPGA, 111 User IOs, 144-Pin FBGA, Standard Speed Grade, Commercial Grade, Pb-Free; DatasheetVersion: v5.3, Feb-2007; PackageVersion: rev39, Aug-2010; PackageReference: FG144; PackageDescription: 144-Ball Fine Pitch Plastic Ball Grid Array (FG144); Code_JEDEC: MO-192-DAD-1; ComponentLink1Description: Manufacturer URL; ComponentLink1URL: http://www.actel.com/; ComponentLink2Description: SX-A Datasheet; ComponentLink2URL: http://www.actel.com/documents/SXA_DS.pdf; ComponentLink3Description: Package Mechanical Drawings; ComponentLink3URL: http://www.actel.com/documents/PckgMechDrwngs.pdf; ComponentLink4Description: SX-A Documents; ComponentLink4URL: http://www.actel.com/products/proasicplus/docs.aspx
footprint FG144 (BGA, 144-Leads, Body 13x13mm, Pitch 1mm)
pins: A1 IO (io), A2 IO (io), A3 IO (io), A4 IO (io), A5 VCCA (power), A6 GND (power), A7 CLKA (in), A8 IO (io), A9 IO (io), A10 IO (io), A11 IO (io), A12 IO (io), B1 IO (io), B2 GND (power), B3 IO (io), B4 IO (io), B5 IO (io), B6 IO (io), B7 CLKB (in), B8 IO (io), B9 IO (io), B10 IO (io), B11 GND (power), B12 IO (io), C1 IO (io), C2 IO (io), C3 TCK/IO (io), C4 IO (io), C5 IO (io), C6 PRA/IO (io), C7 IO (io), C8 IO (io), C9 IO (io), C10 IO (io), C11 IO (io), C12 IO (io), D1 IO (io), D2 VCCI (power), D3 TDI/IO (io), D4 IO (io), D5 IO (io), D6 IO (io), D7 IO (io), D8 IO (io), D9 IO (io), D10 IO (io), D11 IO (io), D12 IO (io), E1 IO (io), E2 IO (io), E3 IO (io), E4 IO (io), E5 TMS (in), E6 VCCI (power), E7 VCCI (power), E8 VCCI (power), E9 VCCA (power), E10 IO (io), E11 GND (power), E12 IO (io), F1 IO (io), F2 IO (io), F3 NC, F4 IO (io), F5 GND (power), F6 GND (power), F7 GND (power), F8 VCCI (power), F9 IO (io), F10 GND (power), F11 IO (io), F12 IO (io), G1 IO (io), G2 GND (power), G3 IO (io), G4 IO (io), G5 GND (power), G6 GND (power), G7 GND (power), G8 VCCI (power), G9 IO (io), G10 IO (io), G11 IO (io), G12 IO (io), H1 ~{TRST}/IO (io), H2 IO (io), H3 IO (io), H4 IO (io), H5 VCCA (power), H6 VCCA (power), H7 VCCI (power), H8 VCCI (power), H9 VCCA (power), H10 IO (io), H11 IO (io), H12 NC, J1 IO (io), J2 IO (io), J3 IO (io), J4 IO (io), J5 IO (io), J6 PRB/IO (io), J7 IO (io), J8 IO (io), J9 IO (io), J10 IO (io), J11 IO (io), J12 VCCA (power), K1 IO (io), K2 IO (io), K3 IO (io), K4 IO (io), K5 IO (io), K6 IO (io), K7 GND (power), K8 IO (io), K9 IO (io), K10 GND (power), K11 IO (io), K12 IO (io), L1 GND (power), L2 IO (io), L3 IO (io), L4 IO (io), L5 IO (io), L6 IO (io), L7 HCLK (in), L8 IO (io), L9 IO (io), L10 IO (io), L11 IO (io), L12 IO (io), M1 IO (io), M2 IO (io), M3 IO (io), M4 IO (io), M5 IO (io), M6 IO (io), M7 VCCA (power), M8 IO (io), M9 IO (io), M10 IO (io), M11 TDO/IO (io), M12 IO (io)

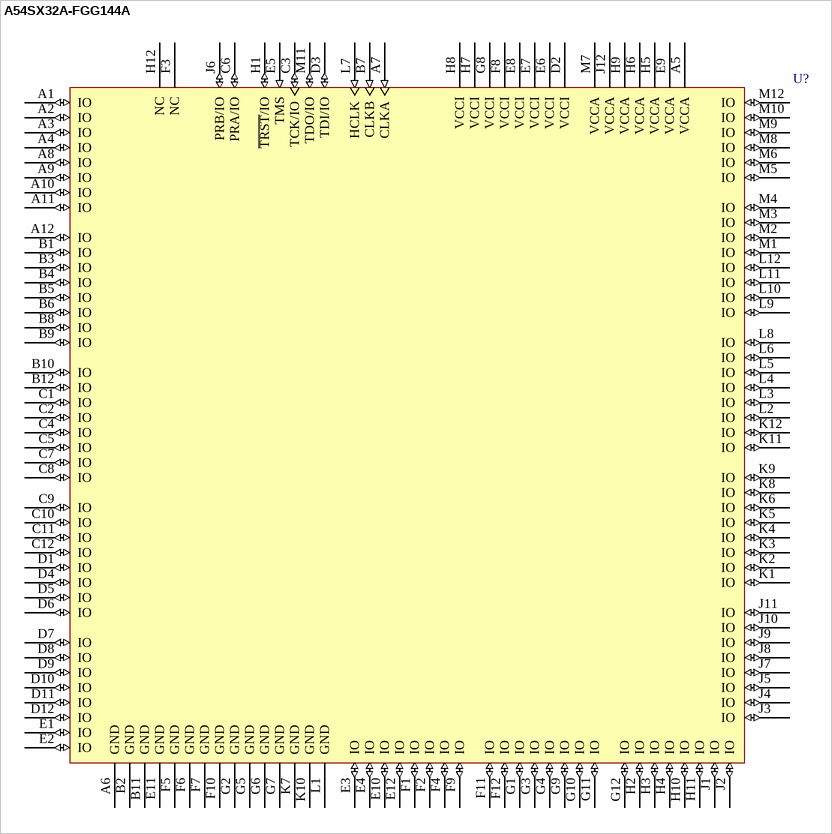
[diagram p219: symbol A54SX32A-FGG144A]

## A54SX32A-FGG144A
designator U?
A54SX32A FPGA, 111 User IOs, 144-Pin FBGA, Standard Speed Grade, Automotive Grade, Pb-Free; DatasheetVersion: v5.3, Feb-2007; PackageVersion: rev39, Aug-2010; PackageReference: FG144; PackageDescription: 144-Ball Fine Pitch Plastic Ball Grid Array (FG144); Code_JEDEC: MO-192-DAD-1; ComponentLink1Description: Manufacturer URL; ComponentLink1URL: http://www.actel.com/; ComponentLink2Description: SX-A Datasheet; ComponentLink2URL: http://www.actel.com/documents/SXA_DS.pdf; ComponentLink3Description: Package Mechanical Drawings; ComponentLink3URL: http://www.actel.com/documents/PckgMechDrwngs.pdf; ComponentLink4Description: SX-A Documents; ComponentLink4URL: http://www.actel.com/products/proasicplus/docs.aspx
footprint FG144 (BGA, 144-Leads, Body 13x13mm, Pitch 1mm)
pins: A1 IO (io), A2 IO (io), A3 IO (io), A4 IO (io), A5 VCCA (power), A6 GND (power), A7 CLKA (in), A8 IO (io), A9 IO (io), A10 IO (io), A11 IO (io), A12 IO (io), B1 IO (io), B2 GND (power), B3 IO (io), B4 IO (io), B5 IO (io), B6 IO (io), B7 CLKB (in), B8 IO (io), B9 IO (io), B10 IO (io), B11 GND (power), B12 IO (io), C1 IO (io), C2 IO (io), C3 TCK/IO (io), C4 IO (io), C5 IO (io), C6 PRA/IO (io), C7 IO (io), C8 IO (io), C9 IO (io), C10 IO (io), C11 IO (io), C12 IO (io), D1 IO (io), D2 VCCI (power), D3 TDI/IO (io), D4 IO (io), D5 IO (io), D6 IO (io), D7 IO (io), D8 IO (io), D9 IO (io), D10 IO (io), D11 IO (io), D12 IO (io), E1 IO (io), E2 IO (io), E3 IO (io), E4 IO (io), E5 TMS (in), E6 VCCI (power), E7 VCCI (power), E8 VCCI (power), E9 VCCA (power), E10 IO (io), E11 GND (power), E12 IO (io), F1 IO (io), F2 IO (io), F3 NC, F4 IO (io), F5 GND (power), F6 GND (power), F7 GND (power), F8 VCCI (power), F9 IO (io), F10 GND (power), F11 IO (io), F12 IO (io), G1 IO (io), G2 GND (power), G3 IO (io), G4 IO (io), G5 GND (power), G6 GND (power), G7 GND (power), G8 VCCI (power), G9 IO (io), G10 IO (io), G11 IO (io), G12 IO (io), H1 ~{TRST}/IO (io), H2 IO (io), H3 IO (io), H4 IO (io), H5 VCCA (power), H6 VCCA (power), H7 VCCI (power), H8 VCCI (power), H9 VCCA (power), H10 IO (io), H11 IO (io), H12 NC, J1 IO (io), J2 IO (io), J3 IO (io), J4 IO (io), J5 IO (io), J6 PRB/IO (io), J7 IO (io), J8 IO (io), J9 IO (io), J10 IO (io), J11 IO (io), J12 VCCA (power), K1 IO (io), K2 IO (io), K3 IO (io), K4 IO (io), K5 IO (io), K6 IO (io), K7 GND (power), K8 IO (io), K9 IO (io), K10 GND (power), K11 IO (io), K12 IO (io), L1 GND (power), L2 IO (io), L3 IO (io), L4 IO (io), L5 IO (io), L6 IO (io), L7 HCLK (in), L8 IO (io), L9 IO (io), L10 IO (io), L11 IO (io), L12 IO (io), M1 IO (io), M2 IO (io), M3 IO (io), M4 IO (io), M5 IO (io), M6 IO (io), M7 VCCA (power), M8 IO (io), M9 IO (io), M10 IO (io), M11 TDO/IO (io), M12 IO (io)

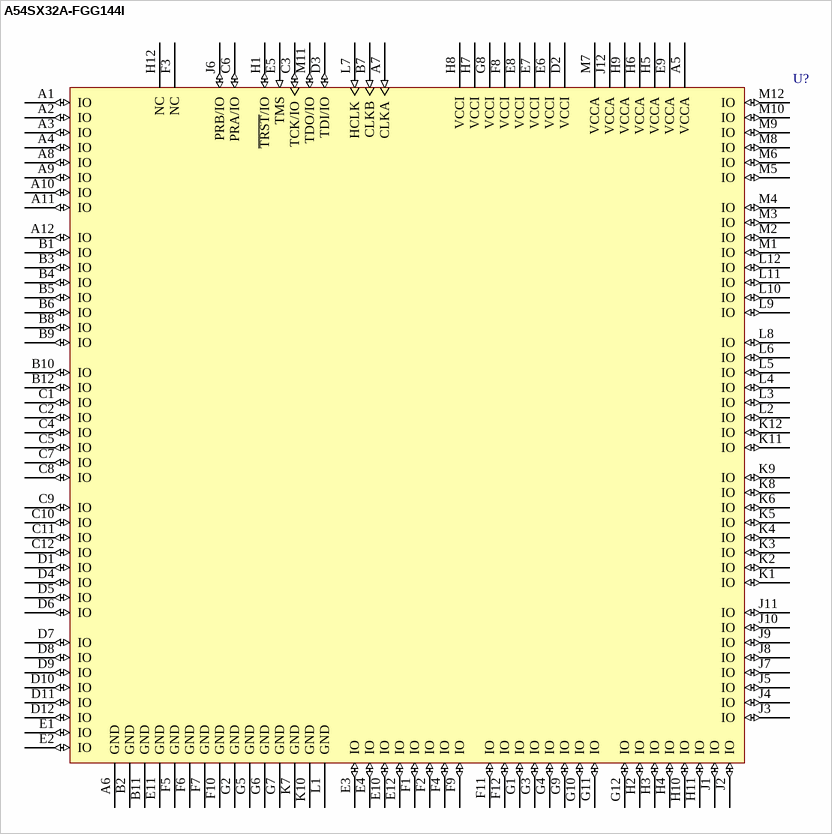
[diagram p220: symbol A54SX32A-FGG144I]

## A54SX32A-FGG144I
designator U?
A54SX32A FPGA, 111 User IOs, 144-Pin FBGA, Standard Speed Grade, Industrial Grade, Pb-Free; DatasheetVersion: v5.3, Feb-2007; PackageVersion: rev39, Aug-2010; PackageReference: FG144; PackageDescription: 144-Ball Fine Pitch Plastic Ball Grid Array (FG144); Code_JEDEC: MO-192-DAD-1; ComponentLink1Description: Manufacturer URL; ComponentLink1URL: http://www.actel.com/; ComponentLink2Description: SX-A Datasheet; ComponentLink2URL: http://www.actel.com/documents/SXA_DS.pdf; ComponentLink3Description: Package Mechanical Drawings; ComponentLink3URL: http://www.actel.com/documents/PckgMechDrwngs.pdf; ComponentLink4Description: SX-A Documents; ComponentLink4URL: http://www.actel.com/products/proasicplus/docs.aspx
footprint FG144 (BGA, 144-Leads, Body 13x13mm, Pitch 1mm)
pins: A1 IO (io), A2 IO (io), A3 IO (io), A4 IO (io), A5 VCCA (power), A6 GND (power), A7 CLKA (in), A8 IO (io), A9 IO (io), A10 IO (io), A11 IO (io), A12 IO (io), B1 IO (io), B2 GND (power), B3 IO (io), B4 IO (io), B5 IO (io), B6 IO (io), B7 CLKB (in), B8 IO (io), B9 IO (io), B10 IO (io), B11 GND (power), B12 IO (io), C1 IO (io), C2 IO (io), C3 TCK/IO (io), C4 IO (io), C5 IO (io), C6 PRA/IO (io), C7 IO (io), C8 IO (io), C9 IO (io), C10 IO (io), C11 IO (io), C12 IO (io), D1 IO (io), D2 VCCI (power), D3 TDI/IO (io), D4 IO (io), D5 IO (io), D6 IO (io), D7 IO (io), D8 IO (io), D9 IO (io), D10 IO (io), D11 IO (io), D12 IO (io), E1 IO (io), E2 IO (io), E3 IO (io), E4 IO (io), E5 TMS (in), E6 VCCI (power), E7 VCCI (power), E8 VCCI (power), E9 VCCA (power), E10 IO (io), E11 GND (power), E12 IO (io), F1 IO (io), F2 IO (io), F3 NC, F4 IO (io), F5 GND (power), F6 GND (power), F7 GND (power), F8 VCCI (power), F9 IO (io), F10 GND (power), F11 IO (io), F12 IO (io), G1 IO (io), G2 GND (power), G3 IO (io), G4 IO (io), G5 GND (power), G6 GND (power), G7 GND (power), G8 VCCI (power), G9 IO (io), G10 IO (io), G11 IO (io), G12 IO (io), H1 ~{TRST}/IO (io), H2 IO (io), H3 IO (io), H4 IO (io), H5 VCCA (power), H6 VCCA (power), H7 VCCI (power), H8 VCCI (power), H9 VCCA (power), H10 IO (io), H11 IO (io), H12 NC, J1 IO (io), J2 IO (io), J3 IO (io), J4 IO (io), J5 IO (io), J6 PRB/IO (io), J7 IO (io), J8 IO (io), J9 IO (io), J10 IO (io), J11 IO (io), J12 VCCA (power), K1 IO (io), K2 IO (io), K3 IO (io), K4 IO (io), K5 IO (io), K6 IO (io), K7 GND (power), K8 IO (io), K9 IO (io), K10 GND (power), K11 IO (io), K12 IO (io), L1 GND (power), L2 IO (io), L3 IO (io), L4 IO (io), L5 IO (io), L6 IO (io), L7 HCLK (in), L8 IO (io), L9 IO (io), L10 IO (io), L11 IO (io), L12 IO (io), M1 IO (io), M2 IO (io), M3 IO (io), M4 IO (io), M5 IO (io), M6 IO (io), M7 VCCA (power), M8 IO (io), M9 IO (io), M10 IO (io), M11 TDO/IO (io), M12 IO (io)

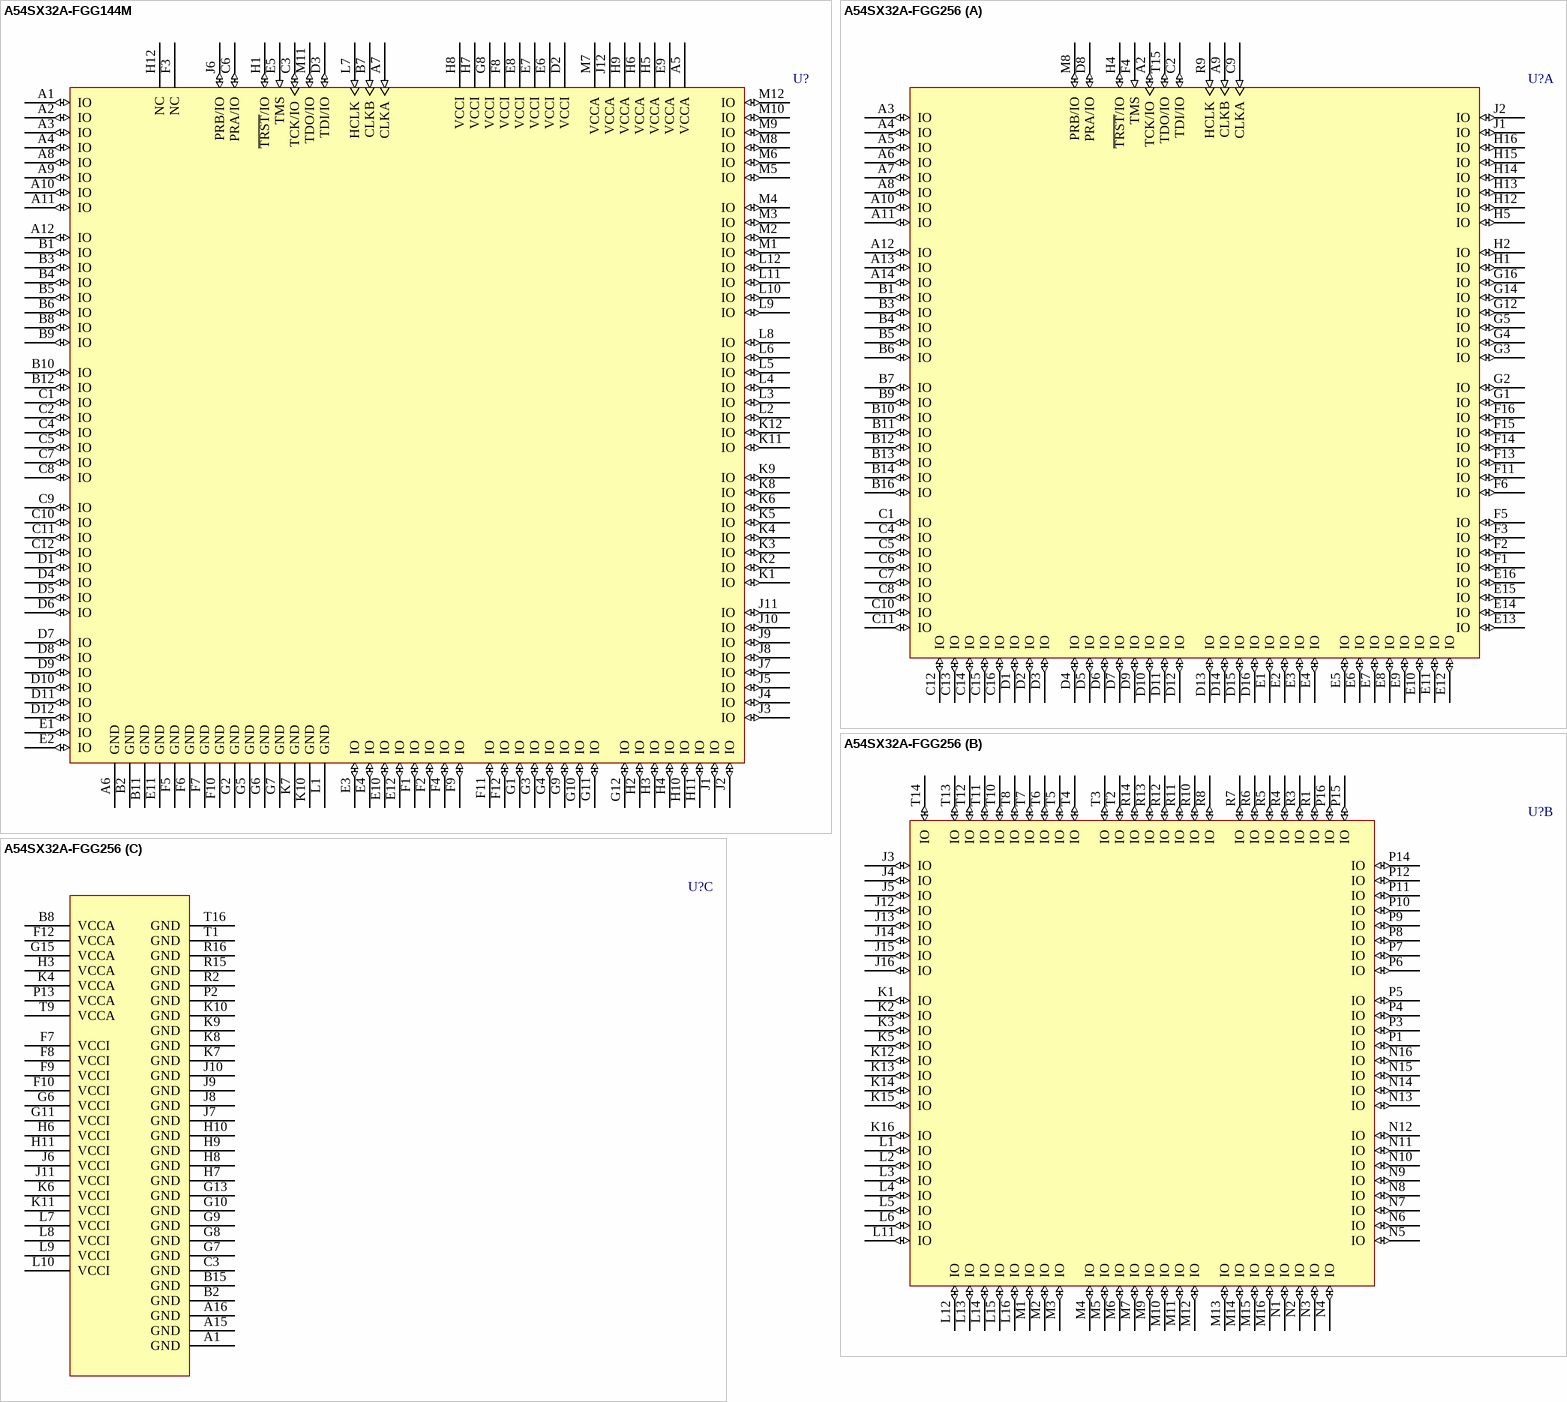
[diagram p221: symbols A54SX32A-FGG144M to A54SX32A-FGG256]

## A54SX32A-FGG144M
designator U?
A54SX32A FPGA, 111 User IOs, 144-Pin FBGA,Standard Speed Grade, Military Grade, Pb-Free; DatasheetVersion: v5.3, Feb-2007; PackageVersion: rev39, Aug-2010; PackageReference: FG144; PackageDescription: 144-Ball Fine Pitch Plastic Ball Grid Array (FG144); Code_JEDEC: MO-192-DAD-1; ComponentLink1Description: Manufacturer URL; ComponentLink1URL: http://www.actel.com/; ComponentLink2Description: SX-A Datasheet; ComponentLink2URL: http://www.actel.com/documents/SXA_DS.pdf; ComponentLink3Description: Package Mechanical Drawings; ComponentLink3URL: http://www.actel.com/documents/PckgMechDrwngs.pdf; ComponentLink4Description: SX-A Documents; ComponentLink4URL: http://www.actel.com/products/proasicplus/docs.aspx
footprint FG144 (BGA, 144-Leads, Body 13x13mm, Pitch 1mm)
pins: A1 IO (io), A2 IO (io), A3 IO (io), A4 IO (io), A5 VCCA (power), A6 GND (power), A7 CLKA (in), A8 IO (io), A9 IO (io), A10 IO (io), A11 IO (io), A12 IO (io), B1 IO (io), B2 GND (power), B3 IO (io), B4 IO (io), B5 IO (io), B6 IO (io), B7 CLKB (in), B8 IO (io), B9 IO (io), B10 IO (io), B11 GND (power), B12 IO (io), C1 IO (io), C2 IO (io), C3 TCK/IO (io), C4 IO (io), C5 IO (io), C6 PRA/IO (io), C7 IO (io), C8 IO (io), C9 IO (io), C10 IO (io), C11 IO (io), C12 IO (io), D1 IO (io), D2 VCCI (power), D3 TDI/IO (io), D4 IO (io), D5 IO (io), D6 IO (io), D7 IO (io), D8 IO (io), D9 IO (io), D10 IO (io), D11 IO (io), D12 IO (io), E1 IO (io), E2 IO (io), E3 IO (io), E4 IO (io), E5 TMS (in), E6 VCCI (power), E7 VCCI (power), E8 VCCI (power), E9 VCCA (power), E10 IO (io), E11 GND (power), E12 IO (io), F1 IO (io), F2 IO (io), F3 NC, F4 IO (io), F5 GND (power), F6 GND (power), F7 GND (power), F8 VCCI (power), F9 IO (io), F10 GND (power), F11 IO (io), F12 IO (io), G1 IO (io), G2 GND (power), G3 IO (io), G4 IO (io), G5 GND (power), G6 GND (power), G7 GND (power), G8 VCCI (power), G9 IO (io), G10 IO (io), G11 IO (io), G12 IO (io), H1 ~{TRST}/IO (io), H2 IO (io), H3 IO (io), H4 IO (io), H5 VCCA (power), H6 VCCA (power), H7 VCCI (power), H8 VCCI (power), H9 VCCA (power), H10 IO (io), H11 IO (io), H12 NC, J1 IO (io), J2 IO (io), J3 IO (io), J4 IO (io), J5 IO (io), J6 PRB/IO (io), J7 IO (io), J8 IO (io), J9 IO (io), J10 IO (io), J11 IO (io), J12 VCCA (power), K1 IO (io), K2 IO (io), K3 IO (io), K4 IO (io), K5 IO (io), K6 IO (io), K7 GND (power), K8 IO (io), K9 IO (io), K10 GND (power), K11 IO (io), K12 IO (io), L1 GND (power), L2 IO (io), L3 IO (io), L4 IO (io), L5 IO (io), L6 IO (io), L7 HCLK (in), L8 IO (io), L9 IO (io), L10 IO (io), L11 IO (io), L12 IO (io), M1 IO (io), M2 IO (io), M3 IO (io), M4 IO (io), M5 IO (io), M6 IO (io), M7 VCCA (power), M8 IO (io), M9 IO (io), M10 IO (io), M11 TDO/IO (io), M12 IO (io)

## A54SX32A-FGG256
designator U?
A54SX32A FPGA, 203 User IOs, 256-Pin FBGA, Standard Speed Grade, Commercial Grade, Pb-Free; DatasheetVersion: v5.3, Feb-2007; PackageVersion: rev39, Aug-2010; PackageReference: FBGA256; PackageDescription: 256-Ball Fine Pitch Plastic Ball Grid Array 1.00 mm Pitch (FG256); Code_JEDEC: MS-034-AAF-1; ComponentLink1Description: Manufacturer URL; ComponentLink1URL: http://www.actel.com/; ComponentLink2Description: SX-A Datasheet; ComponentLink2URL: http://www.actel.com/documents/SXA_DS.pdf; ComponentLink3Description: Package Mechanical Drawings; ComponentLink3URL: http://www.actel.com/documents/PckgMechDrwngs.pdf; ComponentLink4Description: SX-A Documents; ComponentLink4URL: http://www.actel.com/products/proasicplus/docs.aspx
footprint FBGA256 (BGA, 256-Leads, Body 17x17mm, Pitch 1mm)
part A pins: A2 TCK/IO (io), A3 IO (io), A4 IO (io), A5 IO (io), A6 IO (io), A7 IO (io), A8 IO (io), A9 CLKB (in), A10 IO (io), A11 IO (io), A12 IO (io), A13 IO (io), A14 IO (io), B1 IO (io), B3 IO (io), B4 IO (io), B5 IO (io), B6 IO (io), B7 IO (io), B9 IO (io), B10 IO (io), B11 IO (io), B12 IO (io), B13 IO (io), B14 IO (io), B16 IO (io), C1 IO (io), C2 TDI/IO (io), C4 IO (io), C5 IO (io), C6 IO (io), C7 IO (io), C8 IO (io), C9 CLKA (in), C10 IO (io), C11 IO (io), C12 IO (io), C13 IO (io), C14 IO (io), C15 IO (io), C16 IO (io), D1 IO (io), D2 IO (io), D3 IO (io), D4 IO (io), D5 IO (io), D6 IO (io), D7 IO (io), D8 PRA/IO (io), D9 IO (io), D10 IO (io), D11 IO (io), D12 IO (io), D13 IO (io), D14 IO (io), D15 IO (io), D16 IO (io), E1 IO (io), E2 IO (io), E3 IO (io), E4 IO (io), E5 IO (io), E6 IO (io), E7 IO (io), E8 IO (io), E9 IO (io), E10 IO (io), E11 IO (io), E12 IO (io), E13 IO (io), E14 IO (io), E15 IO (io), E16 IO (io), F1 IO (io), F2 IO (io), F3 IO (io), F4 TMS (in), F5 IO (io), F6 IO (io), F11 IO (io), F13 IO (io), F14 IO (io), F15 IO (io), F16 IO (io), G1 IO (io), G2 IO (io), G3 IO (io), G4 IO (io), G5 IO (io), G12 IO (io), G14 IO (io), G16 IO (io), H1 IO (io), H2 IO (io), H4 ~{TRST}/IO (io), H5 IO (io), H12 IO (io), H13 IO (io), H14 IO (io), H15 IO (io), H16 IO (io), J1 IO (io), J2 IO (io), M8 PRB/IO (io), R9 HCLK (in), T15 TDO/IO (io)
part B pins: J3 IO (io), J4 IO (io), J5 IO (io), J12 IO (io), J13 IO (io), J14 IO (io), J15 IO (io), J16 IO (io), K1 IO (io), K2 IO (io), K3 IO (io), K5 IO (io), K12 IO (io), K13 IO (io), K14 IO (io), K15 IO (io), K16 IO (io), L1 IO (io), L2 IO (io), L3 IO (io), L4 IO (io), L5 IO (io), L6 IO (io), L11 IO (io), L12 IO (io), L13 IO (io), L14 IO (io), L15 IO (io), L16 IO (io), M1 IO (io), M2 IO (io), M3 IO (io), M4 IO (io), M5 IO (io), M6 IO (io), M7 IO (io), M9 IO (io), M10 IO (io), M11 IO (io), M12 IO (io), M13 IO (io), M14 IO (io), M15 IO (io), M16 IO (io), N1 IO (io), N2 IO (io), N3 IO (io), N4 IO (io), N5 IO (io), N6 IO (io), N7 IO (io), N8 IO (io), N9 IO (io), N10 IO (io), N11 IO (io), N12 IO (io), N13 IO (io), N14 IO (io), N15 IO (io), N16 IO (io), P1 IO (io), P3 IO (io), P4 IO (io), P5 IO (io), P6 IO (io), P7 IO (io), P8 IO (io), P9 IO (io), P10 IO (io), P11 IO (io), P12 IO (io), P14 IO (io), P15 IO (io), P16 IO (io), R1 IO (io), R3 IO (io), R4 IO (io), R5 IO (io), R6 IO (io), R7 IO (io), R8 IO (io), R10 IO (io), R11 IO (io), R12 IO (io), R13 IO (io), R14 IO (io), T2 IO (io), T3 IO (io), T4 IO (io), T5 IO (io), T6 IO (io), T7 IO (io), T8 IO (io), T10 IO (io), T11 IO (io), T12 IO (io), T13 IO (io), T14 IO (io)
part C pins: A1 GND (power), A15 GND (power), A16 GND (power), B2 GND (power), B8 VCCA (power), B15 GND (power), C3 GND (power), F7 VCCI (power), F8 VCCI (power), F9 VCCI (power), F10 VCCI (power), F12 VCCA (power), G6 VCCI (power), G7 GND (power), G8 GND (power), G9 GND (power), G10 GND (power), G11 VCCI (power), G13 GND (power), G15 VCCA (power), H3 VCCA (power), H6 VCCI (power), H7 GND (power), H8 GND (power), H9 GND (power), H10 GND (power), H11 VCCI (power), J6 VCCI (power), J7 GND (power), J8 GND (power), J9 GND (power), J10 GND (power), J11 VCCI (power), K4 VCCA (power), K6 VCCI (power), K7 GND (power), K8 GND (power), K9 GND (power), K10 GND (power), K11 VCCI (power), L7 VCCI (power), L8 VCCI (power), L9 VCCI (power), L10 VCCI (power), P2 GND (power), P13 VCCA (power), R2 GND (power), R15 GND (power), R16 GND (power), T1 GND (power), T9 VCCA (power), T16 GND (power)

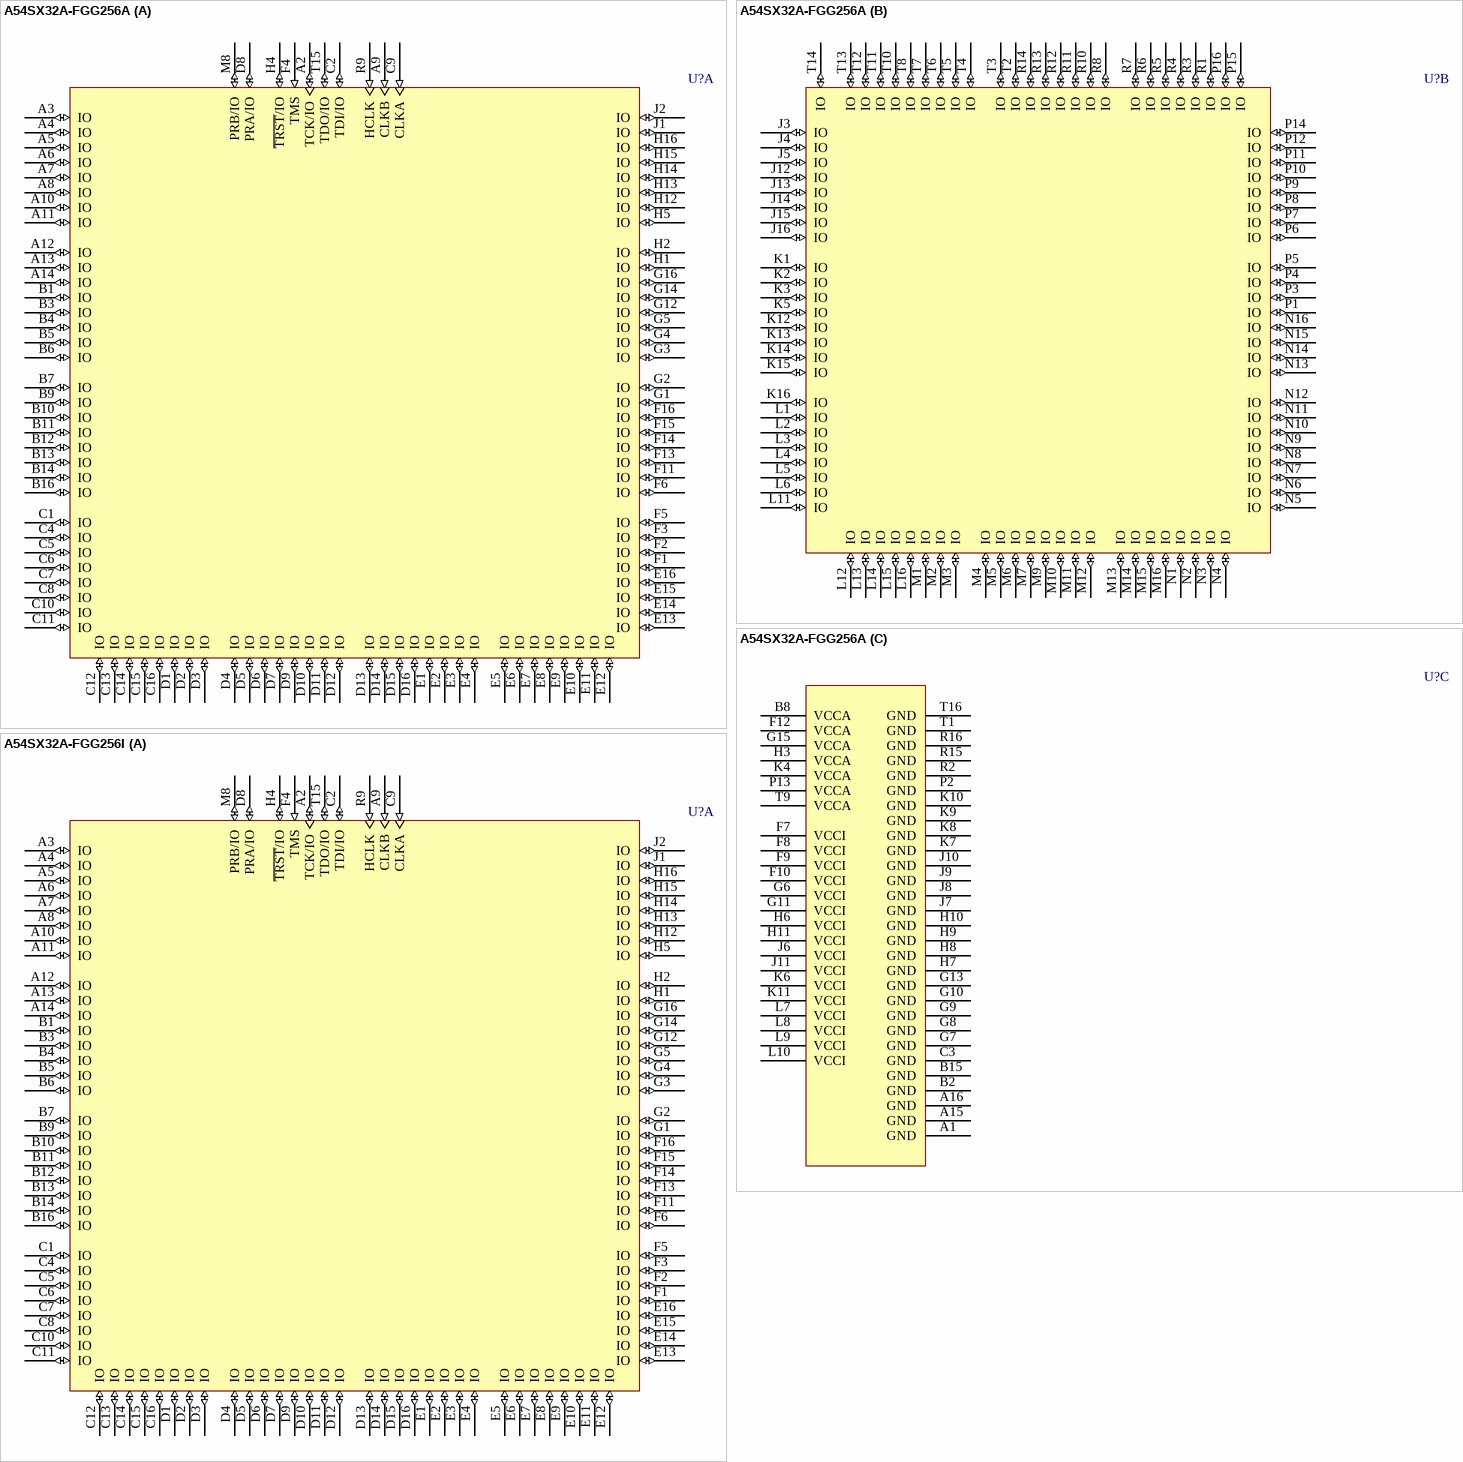
[diagram p222: symbols A54SX32A-FGG256A to A54SX32A-FGG256I]

## A54SX32A-FGG256A
designator U?
A54SX32A FPGA, 203 User IOs, 256-Pin FBGA, Standard Speed Grade, Automotive Grade, Pb-Free; DatasheetVersion: v5.3, Feb-2007; PackageVersion: rev39, Aug-2010; PackageReference: FBGA256; PackageDescription: 256-Ball Fine Pitch Plastic Ball Grid Array 1.00 mm Pitch (FG256); Code_JEDEC: MS-034-AAF-1; ComponentLink1Description: Manufacturer URL; ComponentLink1URL: http://www.actel.com/; ComponentLink2Description: SX-A Datasheet; ComponentLink2URL: http://www.actel.com/documents/SXA_DS.pdf; ComponentLink3Description: Package Mechanical Drawings; ComponentLink3URL: http://www.actel.com/documents/PckgMechDrwngs.pdf; ComponentLink4Description: SX-A Documents; ComponentLink4URL: http://www.actel.com/products/proasicplus/docs.aspx
footprint FBGA256 (BGA, 256-Leads, Body 17x17mm, Pitch 1mm)
part A pins: A2 TCK/IO (io), A3 IO (io), A4 IO (io), A5 IO (io), A6 IO (io), A7 IO (io), A8 IO (io), A9 CLKB (in), A10 IO (io), A11 IO (io), A12 IO (io), A13 IO (io), A14 IO (io), B1 IO (io), B3 IO (io), B4 IO (io), B5 IO (io), B6 IO (io), B7 IO (io), B9 IO (io), B10 IO (io), B11 IO (io), B12 IO (io), B13 IO (io), B14 IO (io), B16 IO (io), C1 IO (io), C2 TDI/IO (io), C4 IO (io), C5 IO (io), C6 IO (io), C7 IO (io), C8 IO (io), C9 CLKA (in), C10 IO (io), C11 IO (io), C12 IO (io), C13 IO (io), C14 IO (io), C15 IO (io), C16 IO (io), D1 IO (io), D2 IO (io), D3 IO (io), D4 IO (io), D5 IO (io), D6 IO (io), D7 IO (io), D8 PRA/IO (io), D9 IO (io), D10 IO (io), D11 IO (io), D12 IO (io), D13 IO (io), D14 IO (io), D15 IO (io), D16 IO (io), E1 IO (io), E2 IO (io), E3 IO (io), E4 IO (io), E5 IO (io), E6 IO (io), E7 IO (io), E8 IO (io), E9 IO (io), E10 IO (io), E11 IO (io), E12 IO (io), E13 IO (io), E14 IO (io), E15 IO (io), E16 IO (io), F1 IO (io), F2 IO (io), F3 IO (io), F4 TMS (in), F5 IO (io), F6 IO (io), F11 IO (io), F13 IO (io), F14 IO (io), F15 IO (io), F16 IO (io), G1 IO (io), G2 IO (io), G3 IO (io), G4 IO (io), G5 IO (io), G12 IO (io), G14 IO (io), G16 IO (io), H1 IO (io), H2 IO (io), H4 ~{TRST}/IO (io), H5 IO (io), H12 IO (io), H13 IO (io), H14 IO (io), H15 IO (io), H16 IO (io), J1 IO (io), J2 IO (io), M8 PRB/IO (io), R9 HCLK (in), T15 TDO/IO (io)
part B pins: J3 IO (io), J4 IO (io), J5 IO (io), J12 IO (io), J13 IO (io), J14 IO (io), J15 IO (io), J16 IO (io), K1 IO (io), K2 IO (io), K3 IO (io), K5 IO (io), K12 IO (io), K13 IO (io), K14 IO (io), K15 IO (io), K16 IO (io), L1 IO (io), L2 IO (io), L3 IO (io), L4 IO (io), L5 IO (io), L6 IO (io), L11 IO (io), L12 IO (io), L13 IO (io), L14 IO (io), L15 IO (io), L16 IO (io), M1 IO (io), M2 IO (io), M3 IO (io), M4 IO (io), M5 IO (io), M6 IO (io), M7 IO (io), M9 IO (io), M10 IO (io), M11 IO (io), M12 IO (io), M13 IO (io), M14 IO (io), M15 IO (io), M16 IO (io), N1 IO (io), N2 IO (io), N3 IO (io), N4 IO (io), N5 IO (io), N6 IO (io), N7 IO (io), N8 IO (io), N9 IO (io), N10 IO (io), N11 IO (io), N12 IO (io), N13 IO (io), N14 IO (io), N15 IO (io), N16 IO (io), P1 IO (io), P3 IO (io), P4 IO (io), P5 IO (io), P6 IO (io), P7 IO (io), P8 IO (io), P9 IO (io), P10 IO (io), P11 IO (io), P12 IO (io), P14 IO (io), P15 IO (io), P16 IO (io), R1 IO (io), R3 IO (io), R4 IO (io), R5 IO (io), R6 IO (io), R7 IO (io), R8 IO (io), R10 IO (io), R11 IO (io), R12 IO (io), R13 IO (io), R14 IO (io), T2 IO (io), T3 IO (io), T4 IO (io), T5 IO (io), T6 IO (io), T7 IO (io), T8 IO (io), T10 IO (io), T11 IO (io), T12 IO (io), T13 IO (io), T14 IO (io)
part C pins: A1 GND (power), A15 GND (power), A16 GND (power), B2 GND (power), B8 VCCA (power), B15 GND (power), C3 GND (power), F7 VCCI (power), F8 VCCI (power), F9 VCCI (power), F10 VCCI (power), F12 VCCA (power), G6 VCCI (power), G7 GND (power), G8 GND (power), G9 GND (power), G10 GND (power), G11 VCCI (power), G13 GND (power), G15 VCCA (power), H3 VCCA (power), H6 VCCI (power), H7 GND (power), H8 GND (power), H9 GND (power), H10 GND (power), H11 VCCI (power), J6 VCCI (power), J7 GND (power), J8 GND (power), J9 GND (power), J10 GND (power), J11 VCCI (power), K4 VCCA (power), K6 VCCI (power), K7 GND (power), K8 GND (power), K9 GND (power), K10 GND (power), K11 VCCI (power), L7 VCCI (power), L8 VCCI (power), L9 VCCI (power), L10 VCCI (power), P2 GND (power), P13 VCCA (power), R2 GND (power), R15 GND (power), R16 GND (power), T1 GND (power), T9 VCCA (power), T16 GND (power)

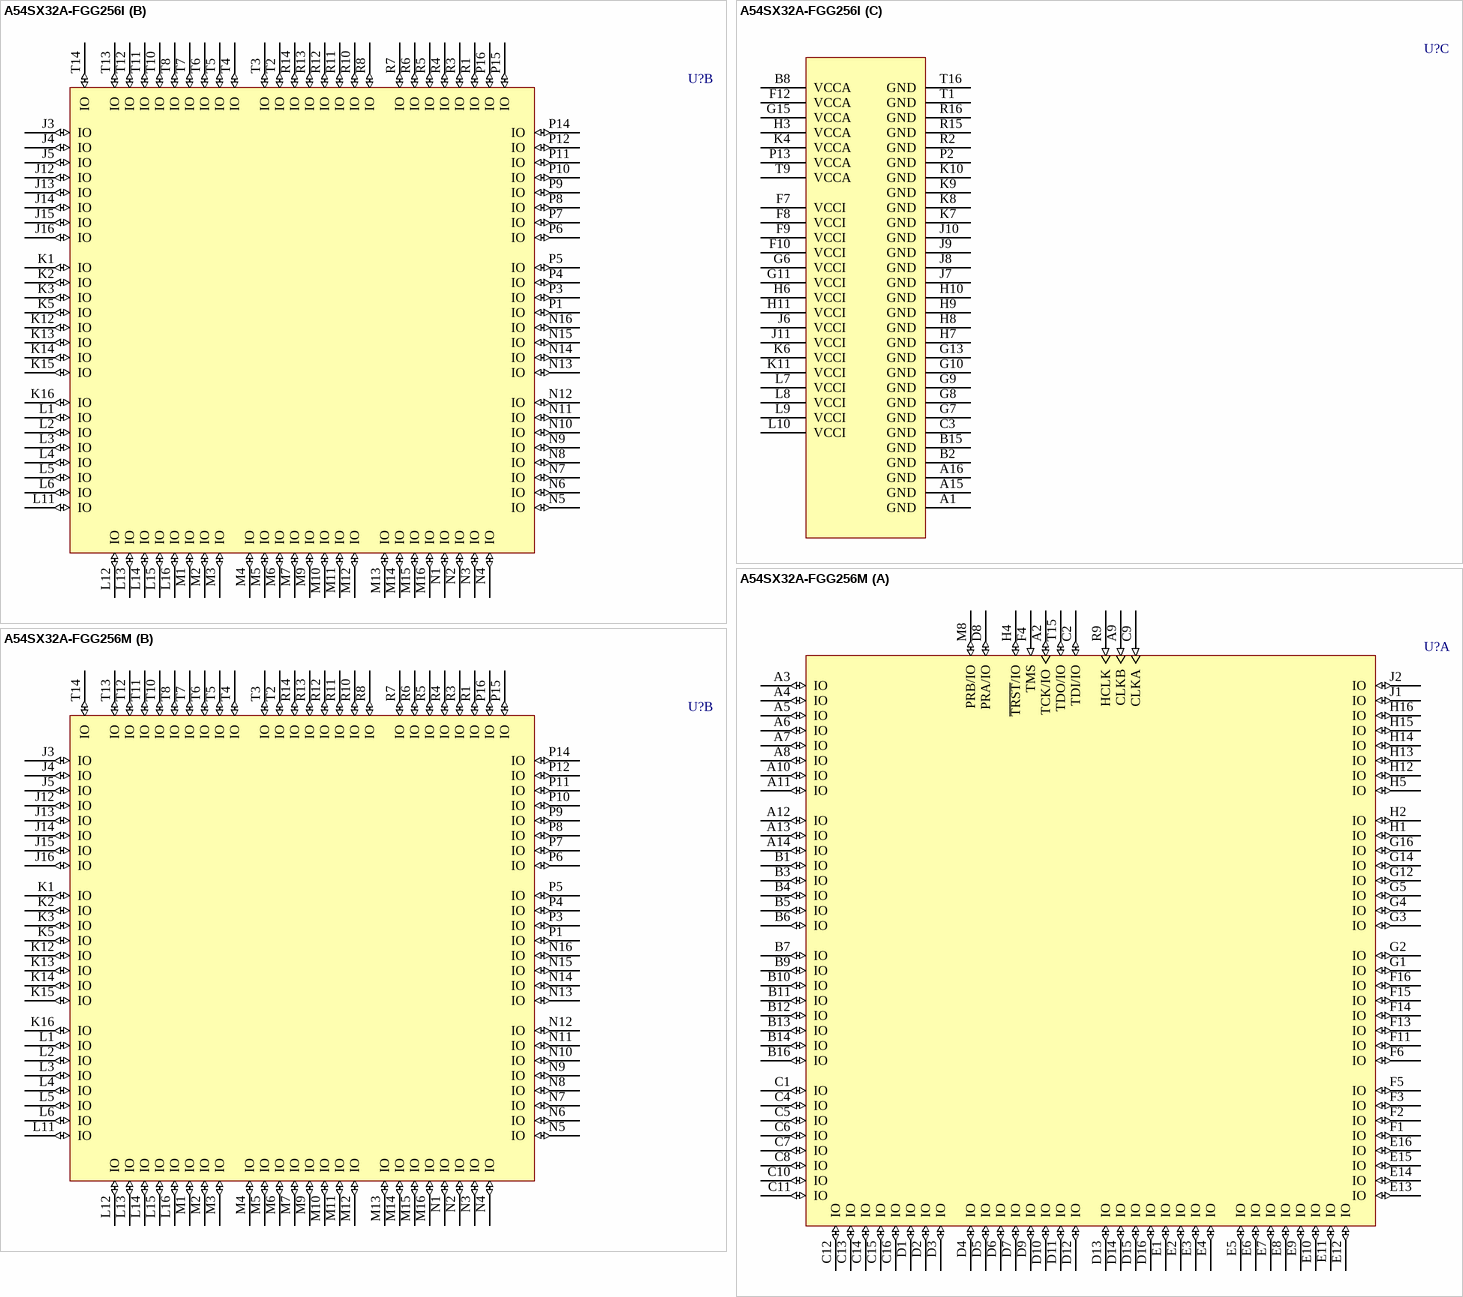
[diagram p223: symbols A54SX32A-FGG256I to A54SX32A-FGG256M]